# Altium schematic symbol library 排针排座.SchLib: 343 symbols (part 1 of 2)
Pins are listed as number, name and electrical type; pins without a type are passive.

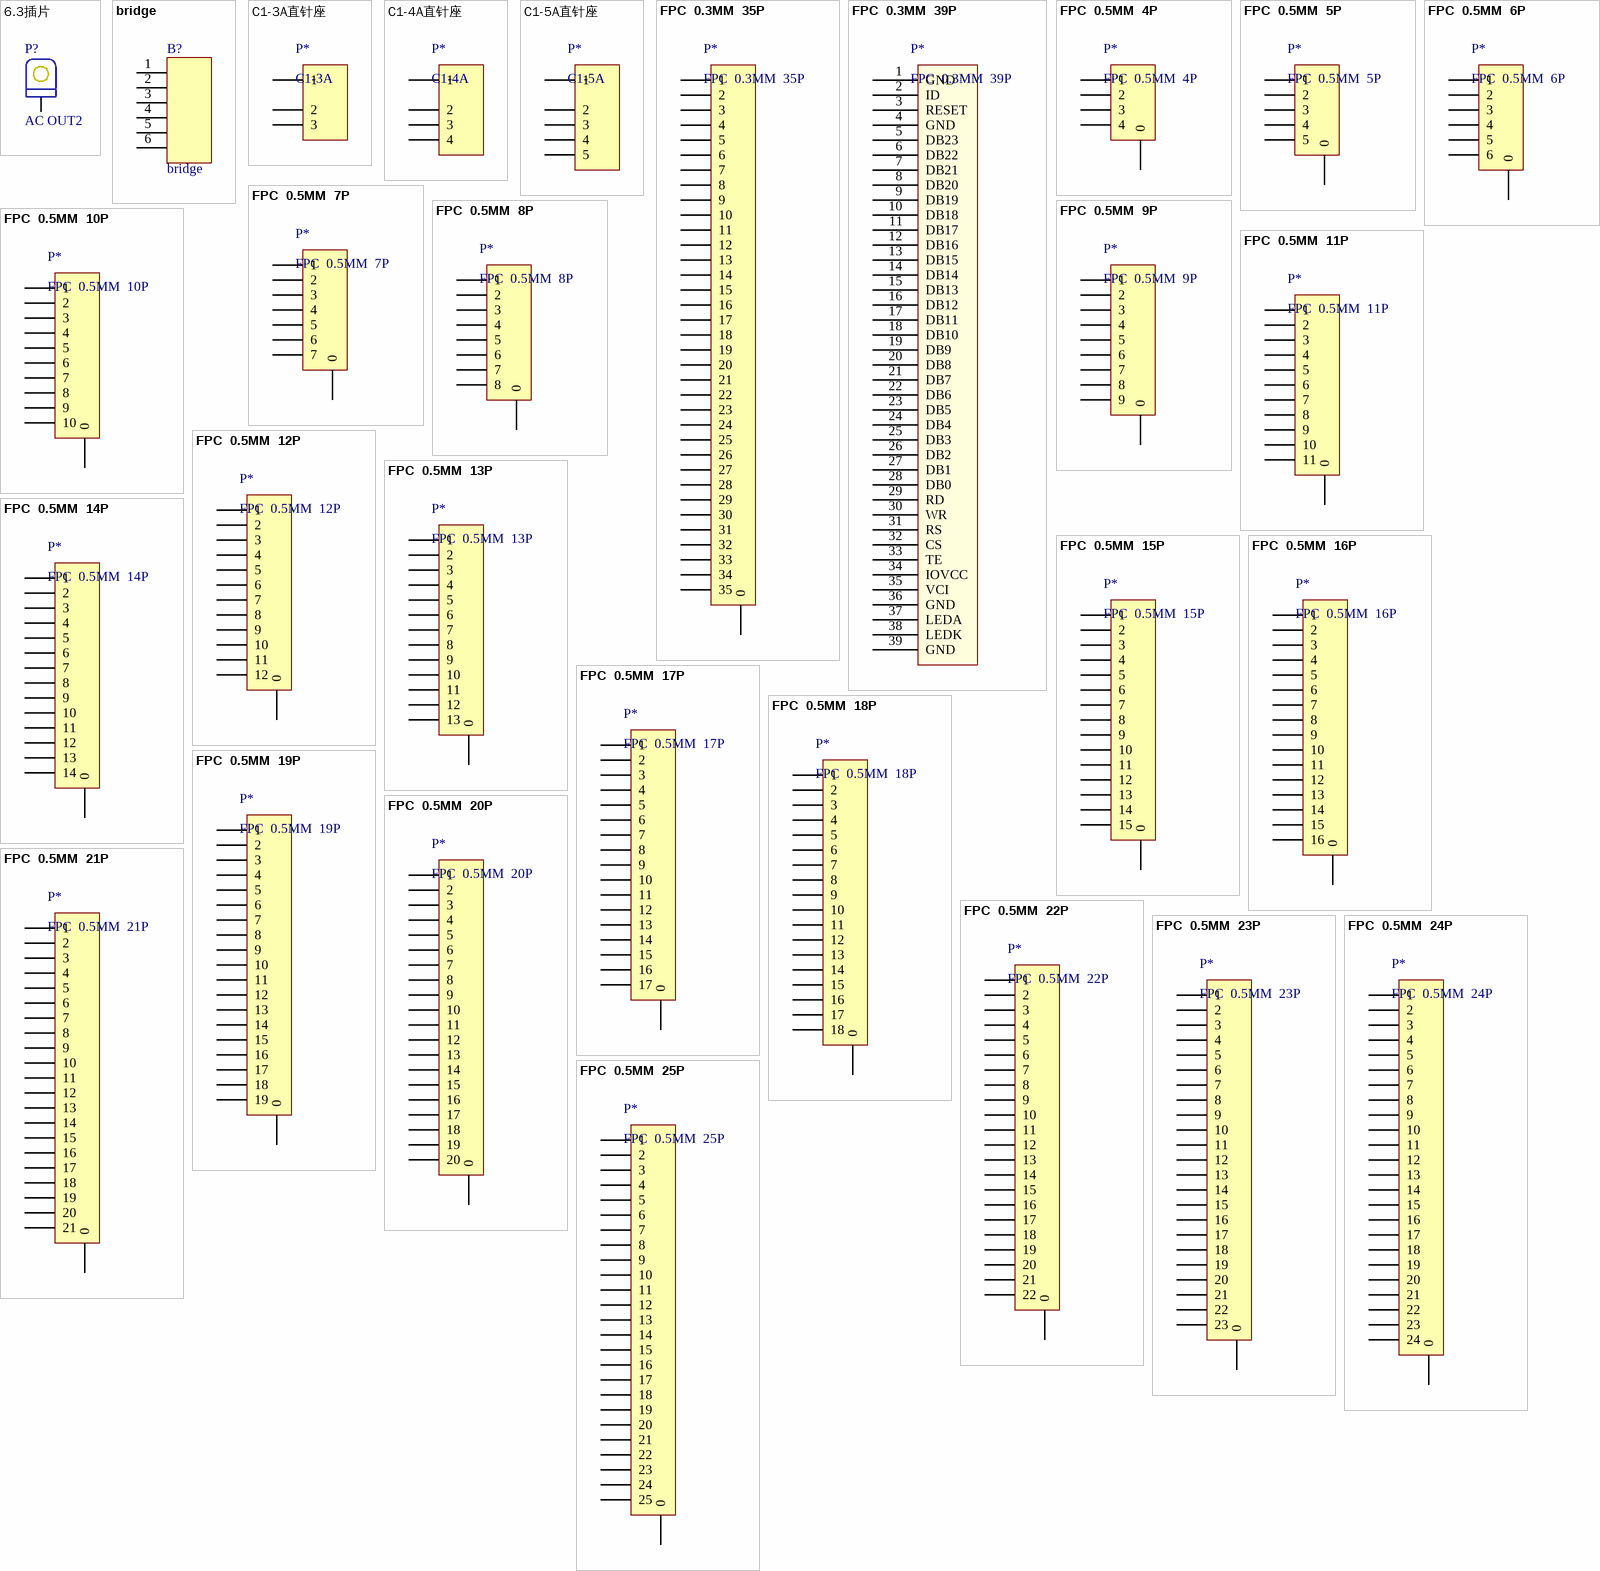
[diagram p0: symbols 6.3插片 to FPC  0.5MM  25P]

## 6.3插片
designator P?, comment AC OUT2
6.3旗型插片 0.8; 物料代码: 3.04.12.0003; 助记码: 6.3QXCP 0.8; 单位: 个; 仓库名称: 五金仓; 加工方式: 插件; 物料名称: 6.3旗型插片 0.8; 规格型号: *
footprint 6.3插片
pins: 1

## bridge
designator B?
仓库名称: 五金仓; 单位: 只; 加工方式: 插件; 物料名称: *; 物料代码: *; 助记码: *; 规格型号: *; 备注: *
footprint bridge (手机唛支架)
pins: 1, 2, 3, 4, 5, 6

## C1-3A直针座
designator P*, comment C1-3A
C1-3A直针座; 物料代码: 3.02.08.01.0015; 仓库名称: 五金仓; 助记码: C1-3AZZZ; 单位: 个; 加工方式: 插件; 规格型号: *; 物料名称: C1-3A直针座; 备注: *
footprint C1-3A   8MM (CA-3A直插座)
pins: 1, 2, 3

## C1-4A直针座
designator P*, comment C1-4A
C1-4A直针座; 物料代码: 3.02.08.01.0016; 仓库名称: 五金仓; 助记码: C1-4AZZZ; 单位: 个; 加工方式: 插件; 规格型号: *; 物料名称: C1-4A直针座; 备注: *
footprint C1-4A   8MM (CA-4A直插座)
pins: 1, 2, 3, 4

## C1-5A直针座
designator P*, comment C1-5A
C1-5A直针座; 物料代码: 3.02.08.01.0041; 仓库名称: 五金仓; 助记码: C1-5AZZZ; 单位: 个; 加工方式: 插件; 规格型号: *; 物料名称: C1-5A直针座; 备注: *
footprint C1-5A   8MM (CA-5A直插座)
pins: 1, 2, 3, 4, 5

## FPC  0.3MM  35P
designator P*
0.3MM间距35P翻盖式FPC连接器; 规格型号: 0.3K-DX-35PWB 1.0H 镀金/白色; 物料代码: 3.02.08.07.0013; 仓库名称: 五金仓; 助记码: 0.3MMJJ35PFGSFPCLJQ; 单位: 只; 加工方式: 贴片; 物料名称: 0.3MM间距35P翻盖式FPC连接器; 备注: *
footprint FPC  0.3  35P
pins: 0, 1, 2, 3, 4, 5, 6, 7, 8, 9, 10, 11, 12, 13, 14, 15, 16, 17, 18, 19, 20, 21, 22, 23, 24, 25, 26, 27, 28, 29, 30, 31, 32, 33, 34, 35

## FPC  0.3MM  39P
designator P*
0.3MM间距39P翻盖下接镀金贴片FPC连接器; 仓库名称: 五金仓; 规格型号: H1.0卷装; 单位: 只; 物料代码: 3.02.08.07.0016; 助记码: 0.3MMJJ39PFGXJDJTPFP; 加工方式: 贴片; 物料名称: 0.3MM间距39P翻盖下接镀金贴片FPC连接器; 备注: *
footprint FPC  0.3  39P (2006用)
pins: 1 GND, 2 ID, 3 RESET, 4 GND, 5 DB23, 6 DB22, 7 DB21, 8 DB20, 9 DB19, 10 DB18, 11 DB17, 12 DB16, 13 DB15, 14 DB14, 15 DB13, 16 DB12, 17 DB11, 18 DB10, 19 DB9, 20 DB8, 21 DB7, 22 DB6, 23 DB5, 24 DB4, 25 DB3, 26 DB2, 27 DB1, 28 DB0, 29 RD, 30 WR, 31 RS, 32 CS, 33 TE, 34 IOVCC, 35 VCI, 36 GND, 37 LEDA, 38 LEDK, 39 GND

## FPC  0.5MM  4P
designator P*
FPC0.5 2H-S-W-4P; 仓库名称: 五金仓; 加工方式: 贴片; 物料代码: *; 物料名称: *; 备注: *; 规格型号: *; 单位: *; 助记码: *
footprint FPC  0.5   04P (长：6.2mm，宽：5.2mm，高：2mm)
pins: 0, 1, 2, 3, 4

## FPC  0.5MM  5P
designator P*
FPC0.5 2H-S-W-5P; 仓库名称: 五金仓; 加工方式: 贴片; 规格型号: *; 物料名称: *; 物料代码: *; 助记码: *; 单位: *; 备注: *
footprint FPC0.5 2H-S-W-5P (长：6.7mm，宽：5.2mm，高：2mm)
pins: 0, 1, 2, 3, 4, 5

## FPC  0.5MM  6P
designator P*
FPC0.5 2H-S-W-6P; 仓库名称: 五金仓; 加工方式: 贴片; 规格型号: *; 物料名称: *; 单位: *; 物料代码: *; 助记码: *; 备注: *
footprint FPC0.5 2H-S-W-6P (长：7.2mm，宽：5.2mm，高：2mm)
pins: 0, 1, 2, 3, 4, 5, 6

## FPC  0.5MM  7P
designator P*
FPC0.5 2H-S-W-7P; 仓库名称: 五金仓; 加工方式: 贴片; 规格型号: *; 物料名称: *; 物料代码: *; 助记码: *; 单位: *; 备注: *
footprint FPC0.5 2H-S-W-7P (长：7.7mm，宽：5.2mm，高：2mm)
pins: 0, 1, 2, 3, 4, 5, 6, 7

## FPC  0.5MM  8P
designator P*
FPC0.5 2H-S-W-8P; 仓库名称: 五金仓; 加工方式: 贴片; 物料名称: *; 物料代码: *; 规格型号: *; 单位: *; 助记码: *; 备注: *
footprint FPC0.5 2H-S-W-8P (长：8.2mm，宽：5.2mm，高：2mm)
pins: 0, 1, 2, 3, 4, 5, 6, 7, 8

## FPC  0.5MM  9P
designator P*
FPC0.5 2H-S-W-9P; 仓库名称: 五金仓; 加工方式: 贴片; 规格型号: *; 助记码: *; 单位: *; 备注: *; 物料代码: *; 物料名称: *
footprint FPC0.5 2H-S-W-9P (长：8.7mm，宽：5.2mm，高：2mm)
pins: 0, 1, 2, 3, 4, 5, 6, 7, 8, 9

## FPC  0.5MM  10P
designator P*
FPC0.5 2H-S-W-10P; 仓库名称: 五金仓; 加工方式: 贴片; 助记码: *; 单位: *; 物料名称: *; 备注: *; 规格型号: *
footprint FPC  0.5  10P
pins: 0, 1, 2, 3, 4, 5, 6, 7, 8, 9, 10

## FPC  0.5MM  11P
designator P*
FPC0.5 2H-S-W-11P; 仓库名称: 五金仓; 加工方式: 贴片; 物料名称: *; 规格型号: *; 单位: *; 备注: *; 助记码: *; 物料代码: *
footprint FPC  0.5  11P
pins: 0, 1, 2, 3, 4, 5, 6, 7, 8, 9, 10, 11

## FPC  0.5MM  12P
designator P*
FPC0.5 2H-S-W-12P; 仓库名称: 五金仓; 加工方式: 贴片; 物料名称: *; 物料代码: *; 规格型号: *; 助记码: *; 单位: *; 备注: *
footprint FPC  0.5  12P
pins: 0, 1, 2, 3, 4, 5, 6, 7, 8, 9, 10, 11, 12

## FPC  0.5MM  13P
designator P*
FPC0.5 2H-S-W-13P; 仓库名称: 五金仓; 加工方式: 贴片; 规格型号: *; 助记码: *; 单位: *; 备注: *; 物料代码: *; 物料名称: *
footprint FPC  0.5  13P
pins: 0, 1, 2, 3, 4, 5, 6, 7, 8, 9, 10, 11, 12, 13

## FPC  0.5MM  14P
designator P*
FPC0.5 2H-S-W-14P; 仓库名称: 五金仓; 加工方式: 贴片; 物料名称: *; 规格型号: *; 助记码: *; 单位: *; 备注: *; 物料代码: *
footprint FPC  0.5  14P
pins: 0, 1, 2, 3, 4, 5, 6, 7, 8, 9, 10, 11, 12, 13, 14

## FPC  0.5MM  15P
designator P*
FPC0.5 2H-S-W-15P; 仓库名称: 五金仓; 加工方式: 贴片; 规格型号: *; 物料代码: *; 物料名称: *; 助记码: *; 备注: *; 单位: *
footprint FPC  0.5  15P
pins: 0, 1, 2, 3, 4, 5, 6, 7, 8, 9, 10, 11, 12, 13, 14, 15

## FPC  0.5MM  16P
designator P*
FPC0.5 2H-S-W-16P; 仓库名称: 五金仓; 加工方式: 贴片; 规格型号: *; 物料代码: *; 物料名称: *; 备注: *; 单位: *; 助记码: *
footprint FPC  0.5  16P
pins: 0, 1, 2, 3, 4, 5, 6, 7, 8, 9, 10, 11, 12, 13, 14, 15, 16

## FPC  0.5MM  17P
designator P*
FPC0.5 2H-S-W-17P; 仓库名称: 五金仓; 加工方式: 贴片; 规格型号: *; 助记码: *; 单位: *; 物料代码: *; 物料名称: *; 备注: *
footprint FPC  0.5  17P
pins: 0, 1, 2, 3, 4, 5, 6, 7, 8, 9, 10, 11, 12, 13, 14, 15, 16, 17

## FPC  0.5MM  18P
designator P*
FPC0.5 2H-S-W-18P; 仓库名称: 五金仓; 加工方式: 贴片; 备注: *; 物料代码: *; 物料名称: *; 规格型号: *; 助记码: *; 单位: *
footprint FPC  0.5  18P
pins: 0, 1, 2, 3, 4, 5, 6, 7, 8, 9, 10, 11, 12, 13, 14, 15, 16, 17, 18

## FPC  0.5MM  19P
designator P*
FPC0.5 2H-S-W-19P; 仓库名称: 五金仓; 加工方式: 贴片; 规格型号: *; 物料名称: *; 助记码: *; 单位: *; 备注: *; 物料代码: *
footprint FPC  0.5  19P
pins: 0, 1, 2, 3, 4, 5, 6, 7, 8, 9, 10, 11, 12, 13, 14, 15, 16, 17, 18, 19

## FPC  0.5MM  20P
designator P*
FPC0.5 2H-S-W-20P; 仓库名称: 五金仓; 加工方式: 贴片; 助记码: *; 单位: *; 备注: *; 物料代码: *; 物料名称: *; 规格型号: *
footprint FPC  0.5  20P
pins: 0, 1, 2, 3, 4, 5, 6, 7, 8, 9, 10, 11, 12, 13, 14, 15, 16, 17, 18, 19, 20

## FPC  0.5MM  21P
designator P*
FPC0.5 2H-S-W-21P; 仓库名称: 五金仓; 加工方式: 贴片; 物料名称: *; 规格型号: *; 助记码: *; 单位: *; 备注: *; 物料代码: *
footprint FPC  0.5  21P
pins: 0, 1, 2, 3, 4, 5, 6, 7, 8, 9, 10, 11, 12, 13, 14, 15, 16, 17, 18, 19, 20, 21

## FPC  0.5MM  22P
designator P*
FPC0.5 2H-S-W-22P; 仓库名称: 五金仓; 加工方式: 贴片; 规格型号: *; 助记码: *; 备注: *; 物料代码: *; 单位: *; 物料名称: *
footprint FPC  0.5  22P
pins: 0, 1, 2, 3, 4, 5, 6, 7, 8, 9, 10, 11, 12, 13, 14, 15, 16, 17, 18, 19, 20, 21, 22

## FPC  0.5MM  23P
designator P*
FPC0.5 2H-S-W-23P; 仓库名称: 五金仓; 加工方式: 贴片; 规格型号: *; 物料名称: *; 物料代码: *; 单位: *; 备注: *; 助记码: *
footprint FPC  0.5  23P
pins: 0, 1, 2, 3, 4, 5, 6, 7, 8, 9, 10, 11, 12, 13, 14, 15, 16, 17, 18, 19, 20, 21, 22, 23

## FPC  0.5MM  24P
designator P*
FPC0.5 2H-S-W-24P; 仓库名称: 五金仓; 加工方式: 贴片; 单位: *; 助记码: *; 备注: *; 物料代码: *; 物料名称: *; 规格型号: *
footprint FPC  0.5  24P
pins: 0, 1, 2, 3, 4, 5, 6, 7, 8, 9, 10, 11, 12, 13, 14, 15, 16, 17, 18, 19, 20, 21, 22, 23, 24

## FPC  0.5MM  25P
designator P*
FPC0.5 2H-S-W-25P; 仓库名称: 五金仓; 加工方式: 贴片; 助记码: *; 单位: *; 备注: *; 物料代码: *; 物料名称: *; 规格型号: *
footprint FPC  0.5  25P
pins: 0, 1, 2, 3, 4, 5, 6, 7, 8, 9, 10, 11, 12, 13, 14, 15, 16, 17, 18, 19, 20, 21, 22, 23, 24, 25

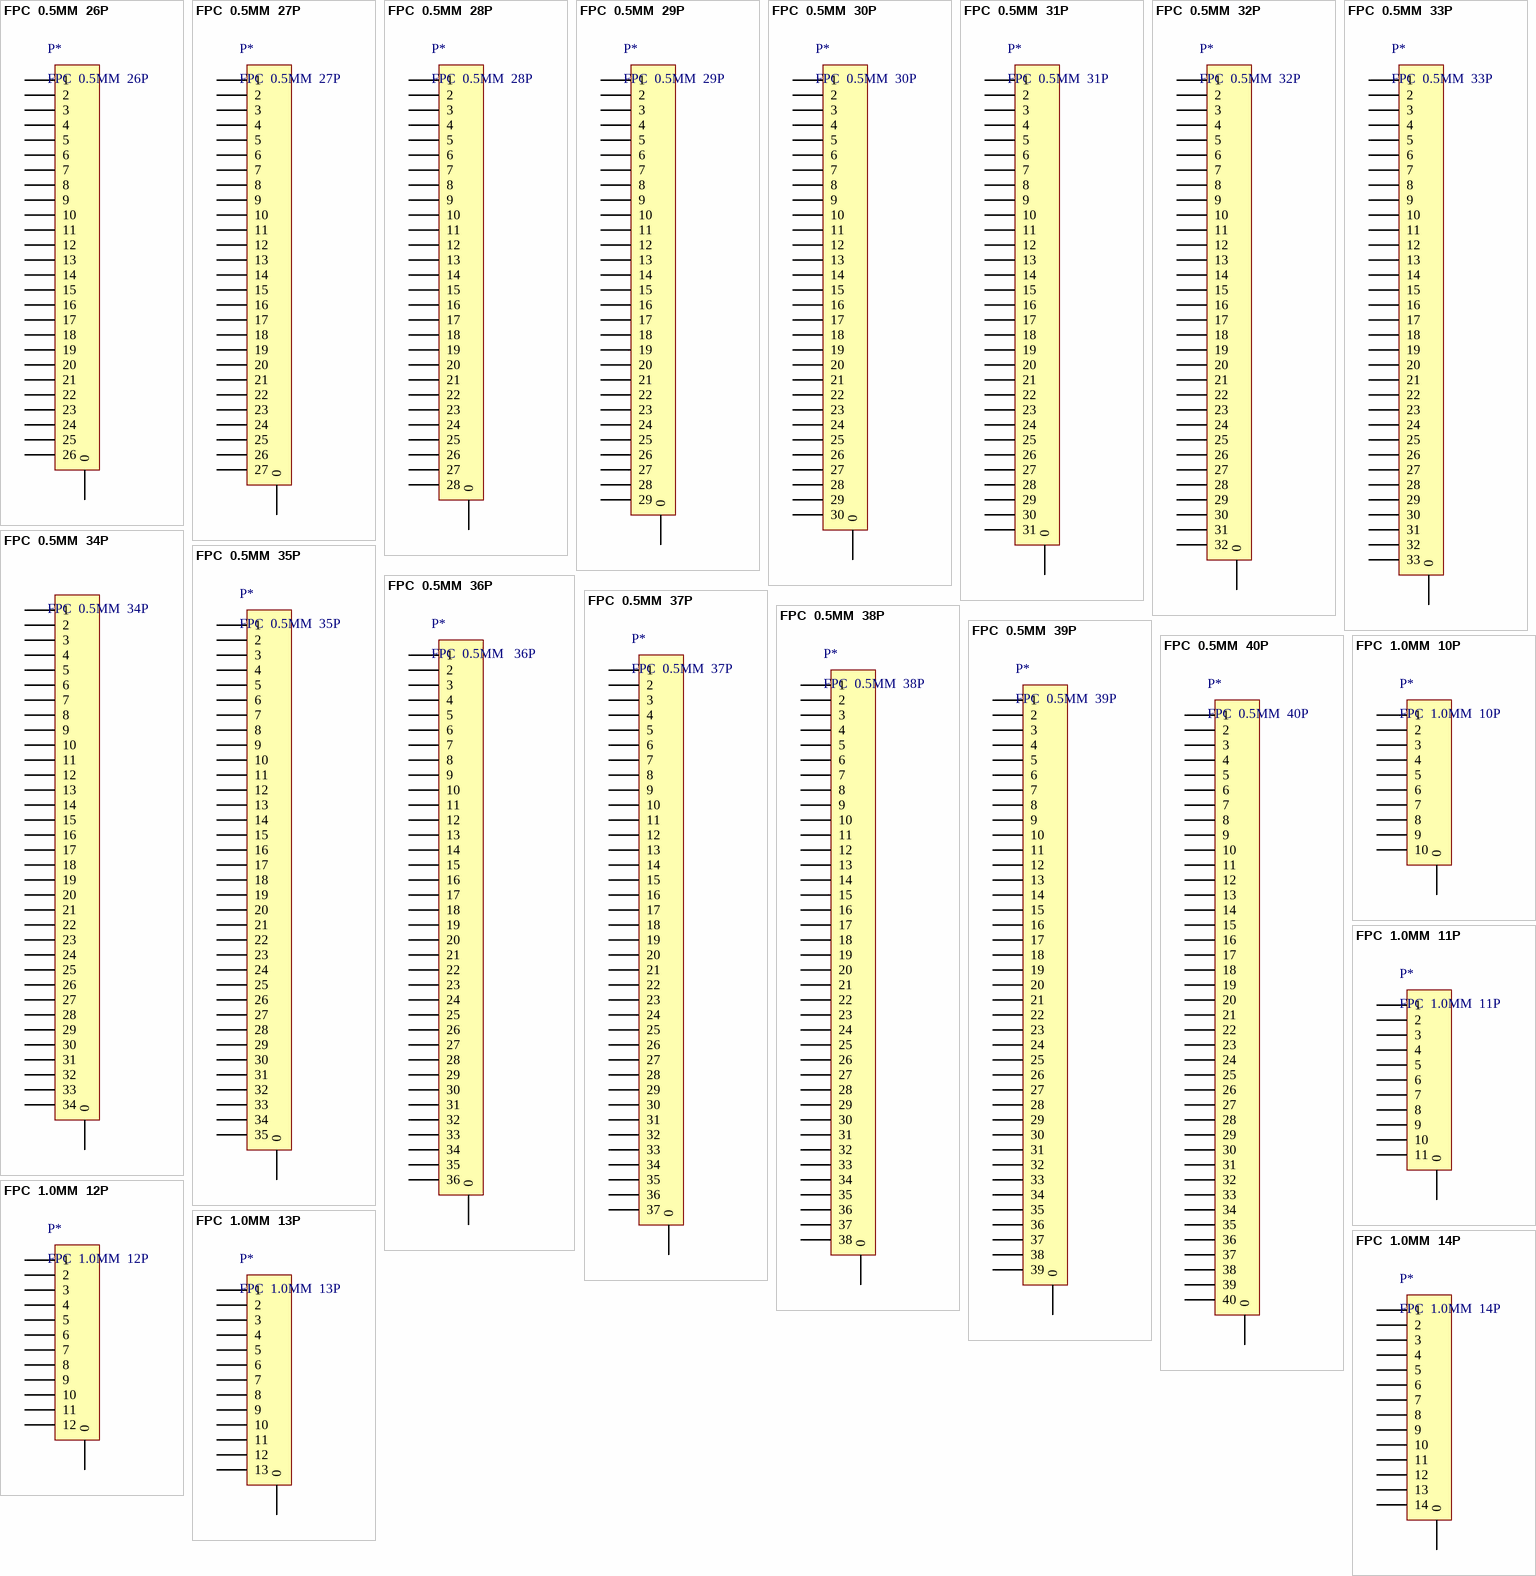
[diagram p1: symbols FPC  0.5MM  26P to FPC  1.0MM  14P]

## FPC  0.5MM  26P
designator P*
FPC0.5 2H-S-W-26P; 仓库名称: 五金仓; 加工方式: 贴片; 规格型号: *; 助记码: *; 单位: *; 备注: *; 物料代码: *; 物料名称: *
footprint FPC  0.5  26P
pins: 0, 1, 2, 3, 4, 5, 6, 7, 8, 9, 10, 11, 12, 13, 14, 15, 16, 17, 18, 19, 20, 21, 22, 23, 24, 25, 26

## FPC  0.5MM  27P
designator P*
FPC0.5 2H-S-W-27P; 仓库名称: 五金仓; 加工方式: 贴片; 单位: *; 规格型号: *; 助记码: *; 物料名称: *; 物料代码: *; 备注: *
footprint FPC  0.5  27P
pins: 0, 1, 2, 3, 4, 5, 6, 7, 8, 9, 10, 11, 12, 13, 14, 15, 16, 17, 18, 19, 20, 21, 22, 23, 24, 25, 26, 27

## FPC  0.5MM  28P
designator P*
FPC0.5 2H-S-W-28P; 仓库名称: 五金仓; 加工方式: 贴片; 物料名称: *; 规格型号: *; 物料代码: *; 助记码: *; 单位: *; 备注: *
footprint FPC  0.5  28P
pins: 0, 1, 2, 3, 4, 5, 6, 7, 8, 9, 10, 11, 12, 13, 14, 15, 16, 17, 18, 19, 20, 21, 22, 23, 24, 25, 26, 27, 28

## FPC  0.5MM  29P
designator P*
FPC0.5 2H-S-W-29P; 仓库名称: 五金仓; 加工方式: 贴片; 物料名称: *; 规格型号: *; 物料代码: *; 助记码: *; 单位: *; 备注: *
footprint FPC  0.5  29P
pins: 0, 1, 2, 3, 4, 5, 6, 7, 8, 9, 10, 11, 12, 13, 14, 15, 16, 17, 18, 19, 20, 21, 22, 23, 24, 25, 26, 27, 28, 29

## FPC  0.5MM  30P
designator P*
FPC0.5 2H-S-W-30P; 仓库名称: 五金仓; 加工方式: 贴片; 规格型号: *; 物料名称: *; 物料代码: *; 备注: *; 单位: *; 助记码: *
footprint FPC  0.5  30P
pins: 0, 1, 2, 3, 4, 5, 6, 7, 8, 9, 10, 11, 12, 13, 14, 15, 16, 17, 18, 19, 20, 21, 22, 23, 24, 25, 26, 27, 28, 29, 30

## FPC  0.5MM  31P
designator P*
FPC0.5 2H-S-W-31P; 仓库名称: 五金仓; 加工方式: 贴片; 物料名称: *; 物料代码: *; 规格型号: *; 助记码: *; 单位: *; 备注: *
footprint FPC  0.5  31P
pins: 0, 1, 2, 3, 4, 5, 6, 7, 8, 9, 10, 11, 12, 13, 14, 15, 16, 17, 18, 19, 20, 21, 22, 23, 24, 25, 26, 27, 28, 29, 30, 31

## FPC  0.5MM  32P
designator P*
FPC0.5 2H-S-W-32P; 仓库名称: 五金仓; 加工方式: 贴片; 物料名称: *; 物料代码: *; 规格型号: *; 助记码: *; 备注: *; 单位: *
footprint FPC  0.5  32P
pins: 0, 1, 2, 3, 4, 5, 6, 7, 8, 9, 10, 11, 12, 13, 14, 15, 16, 17, 18, 19, 20, 21, 22, 23, 24, 25, 26, 27, 28, 29, 30, 31, 32

## FPC  0.5MM  33P
designator P*
FPC0.5 2H-S-W-33P; 仓库名称: 五金仓; 加工方式: 贴片; 规格型号: *; 单位: *; 助记码: *; 备注: *; 物料代码: *; 物料名称: *
footprint FPC  0.5  33P
pins: 0, 1, 2, 3, 4, 5, 6, 7, 8, 9, 10, 11, 12, 13, 14, 15, 16, 17, 18, 19, 20, 21, 22, 23, 24, 25, 26, 27, 28, 29, 30, 31, 32, 33

## FPC  0.5MM  34P
designator ?
FPC0.5 2H-S-W-34P; 仓库名称: 五金仓; 加工方式: 贴片; 单位: *; 助记码: *; 规格型号: *; 备注: *; 物料名称: *; 物料代码: *
footprint FPC  0.5  34P
pins: 0, 1, 2, 3, 4, 5, 6, 7, 8, 9, 10, 11, 12, 13, 14, 15, 16, 17, 18, 19, 20, 21, 22, 23, 24, 25, 26, 27, 28, 29, 30, 31, 32, 33, 34

## FPC  0.5MM  35P
designator P*
FPC0.5 2H-S-W-35P; 仓库名称: 五金仓; 加工方式: 贴片; 物料名称: *; 规格型号: *; 物料代码: *; 助记码: *; 单位: *; 备注: *
footprint FPC  0.5  35P
pins: 0, 1, 2, 3, 4, 5, 6, 7, 8, 9, 10, 11, 12, 13, 14, 15, 16, 17, 18, 19, 20, 21, 22, 23, 24, 25, 26, 27, 28, 29, 30, 31, 32, 33, 34, 35

## FPC  0.5MM  36P
designator P*, comment FPC  0.5MM   36P
FPC0.5 2H-S-W-36P; 仓库名称: 五金仓; 加工方式: 贴片; 物料名称: *; 规格型号: *; 物料代码: *; 助记码: *; 单位: *; 备注: *
footprint FPC  0.5  36P
pins: 0, 1, 2, 3, 4, 5, 6, 7, 8, 9, 10, 11, 12, 13, 14, 15, 16, 17, 18, 19, 20, 21, 22, 23, 24, 25, 26, 27, 28, 29, 30, 31, 32, 33, 34, 35, 36

## FPC  0.5MM  37P
designator P*
FPC0.5 2H-S-W-37P; 仓库名称: 五金仓; 加工方式: 贴片; 规格型号: *; 助记码: *; 单位: *; 物料代码: *; 物料名称: *; 备注: *
footprint FPC  0.5  37P
pins: 0, 1, 2, 3, 4, 5, 6, 7, 8, 9, 10, 11, 12, 13, 14, 15, 16, 17, 18, 19, 20, 21, 22, 23, 24, 25, 26, 27, 28, 29, 30, 31, 32, 33, 34, 35, 36, 37

## FPC  0.5MM  38P
designator P*
FPC0.5 2H-S-W-38P; 仓库名称: 五金仓; 加工方式: 贴片; 规格型号: *; 助记码: *; 单位: *; 备注: *; 物料代码: *; 物料名称: *
footprint FPC  0.5  38P
pins: 0, 1, 2, 3, 4, 5, 6, 7, 8, 9, 10, 11, 12, 13, 14, 15, 16, 17, 18, 19, 20, 21, 22, 23, 24, 25, 26, 27, 28, 29, 30, 31, 32, 33, 34, 35, 36, 37, 38

## FPC  0.5MM  39P
designator P*
FPC0.5 2H-S-W-39P; 仓库名称: 五金仓; 加工方式: 贴片; 物料名称: *; 规格型号: *; 单位: *; 备注: *; 物料代码: *; 助记码: *
footprint FPC  0.5  39P
pins: 0, 1, 2, 3, 4, 5, 6, 7, 8, 9, 10, 11, 12, 13, 14, 15, 16, 17, 18, 19, 20, 21, 22, 23, 24, 25, 26, 27, 28, 29, 30, 31, 32, 33, 34, 35, 36, 37, 38, 39

## FPC  0.5MM  40P
designator P*
FPC0.5 2H-S-W-40P; 仓库名称: 五金仓; 加工方式: 贴片; 规格型号: *; 助记码: *; 备注: *; 单位: *; 物料代码: *; 物料名称: *
footprint FPC  0.5  40P
pins: 0, 1, 2, 3, 4, 5, 6, 7, 8, 9, 10, 11, 12, 13, 14, 15, 16, 17, 18, 19, 20, 21, 22, 23, 24, 25, 26, 27, 28, 29, 30, 31, 32, 33, 34, 35, 36, 37, 38, 39, 40

## FPC  1.0MM  10P
designator P*
仓库名称: 五金仓; 加工方式: 贴片; 物料代码: *; 物料名称: *; 备注: *; 规格型号: *; 单位: *; 助记码: *
footprint FPC  1.0  10P (10 pins)
pins: 0, 1, 2, 3, 4, 5, 6, 7, 8, 9, 10

## FPC  1.0MM  11P
designator P*
仓库名称: 五金仓; 加工方式: 贴片; 物料代码: *; 物料名称: *; 备注: *; 规格型号: *; 单位: *; 助记码: *
footprint FPC  1.0  11P (11 Pins)
pins: 0, 1, 2, 3, 4, 5, 6, 7, 8, 9, 10, 11

## FPC  1.0MM  12P
designator P*
仓库名称: 五金仓; 加工方式: 贴片; 物料代码: *; 物料名称: *; 备注: *; 规格型号: *; 单位: *; 助记码: *
footprint FPC  1.0  12P (12 Pins)
pins: 0, 1, 2, 3, 4, 5, 6, 7, 8, 9, 10, 11, 12

## FPC  1.0MM  13P
designator P*
仓库名称: 五金仓; 加工方式: 贴片; 物料代码: *; 物料名称: *; 备注: *; 规格型号: *; 单位: *; 助记码: *
footprint FPC  1.0  13P (13 Pins)
pins: 0, 1, 2, 3, 4, 5, 6, 7, 8, 9, 10, 11, 12, 13

## FPC  1.0MM  14P
designator P*
仓库名称: 五金仓; 加工方式: 贴片; 物料代码: *; 物料名称: *; 备注: *; 规格型号: *; 单位: *; 助记码: *
footprint FPC  1.0  14P (14 Pns)
pins: 0, 1, 2, 3, 4, 5, 6, 7, 8, 9, 10, 11, 12, 13, 14

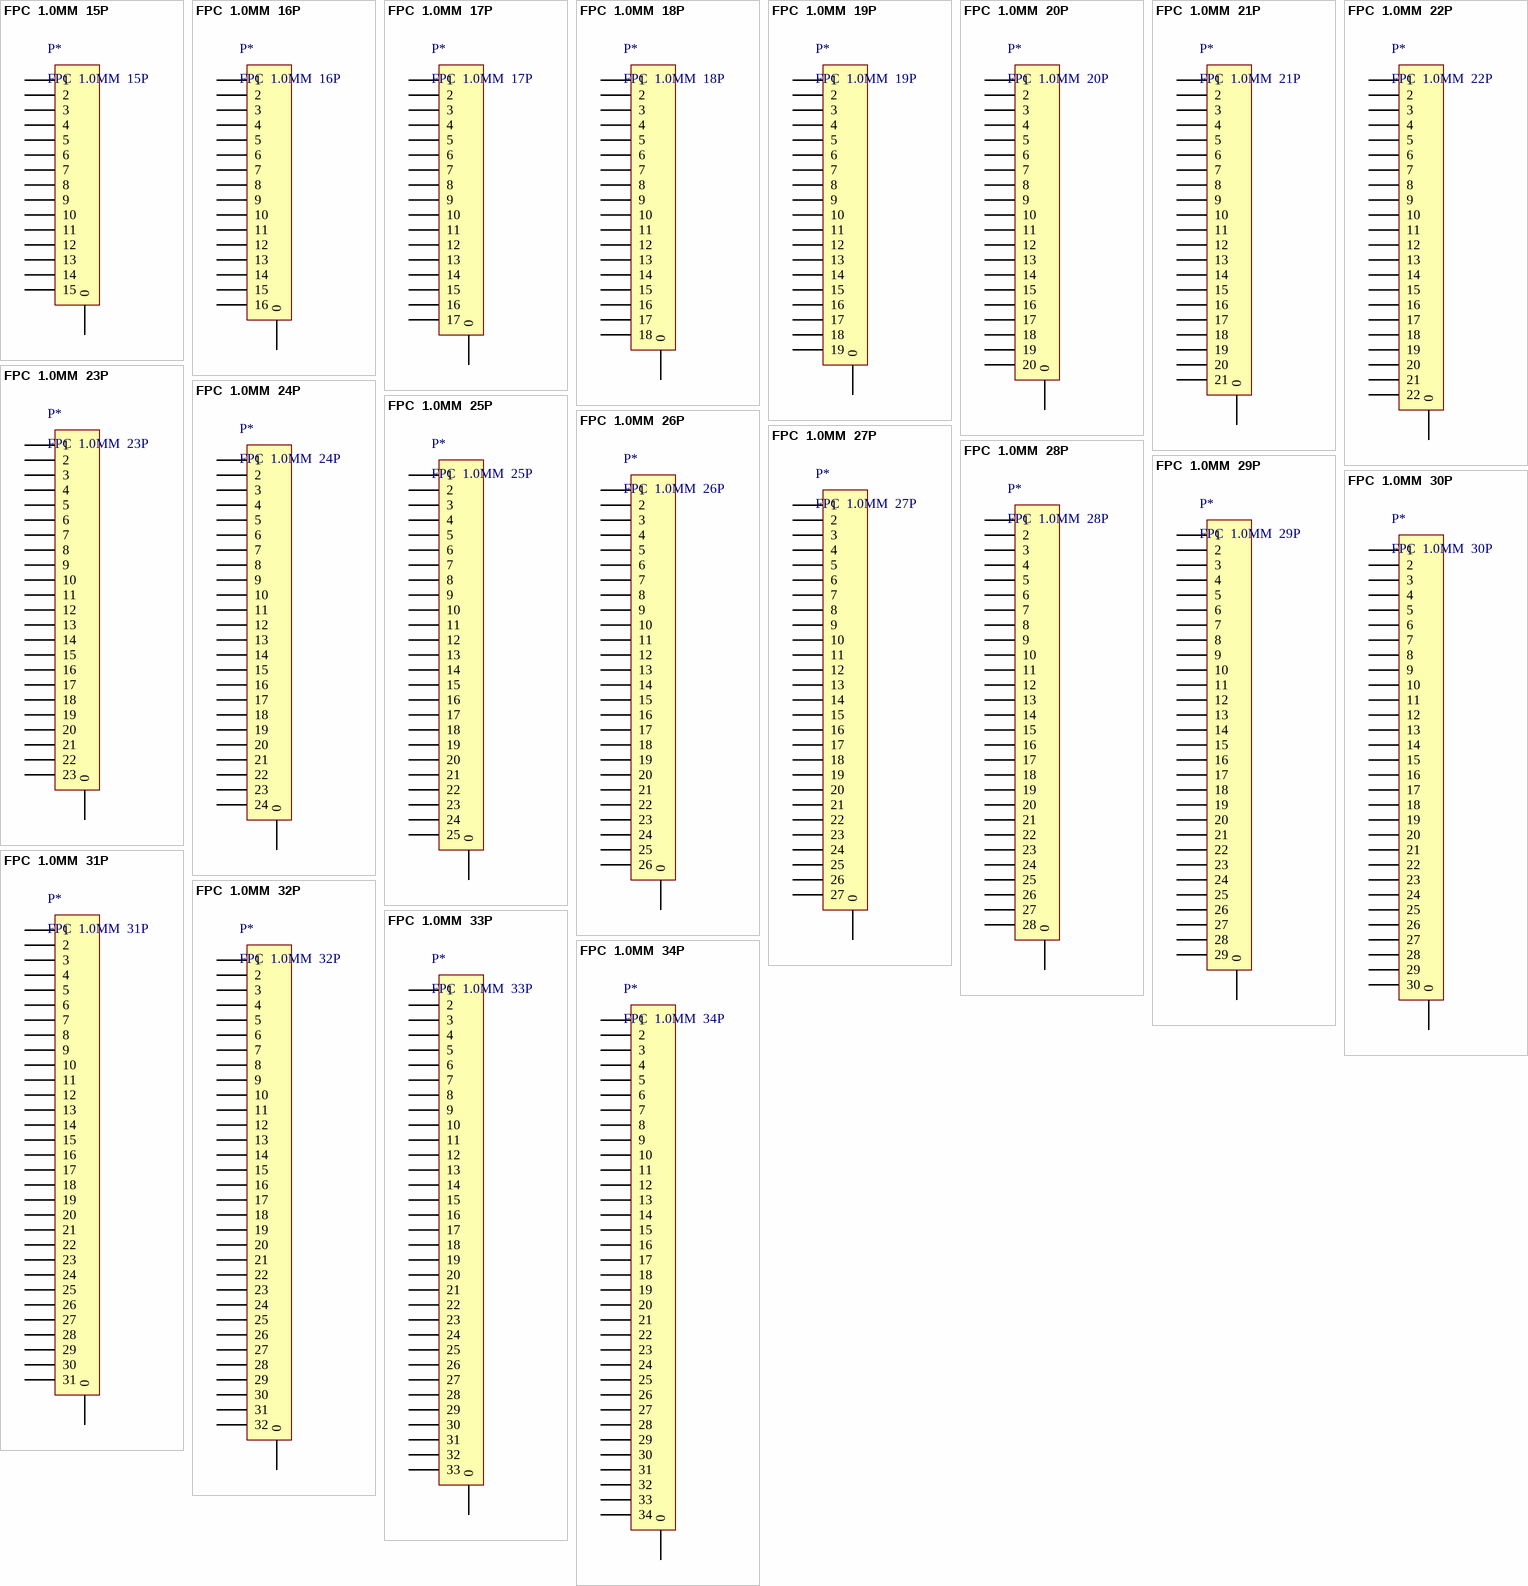
[diagram p2: symbols FPC  1.0MM  15P to FPC  1.0MM  34P]

## FPC  1.0MM  15P
designator P*
仓库名称: 五金仓; 加工方式: 贴片; 物料代码: *; 物料名称: *; 备注: *; 规格型号: *; 单位: *; 助记码: *
footprint FPC  1.0  15P (15 Pns)
pins: 0, 1, 2, 3, 4, 5, 6, 7, 8, 9, 10, 11, 12, 13, 14, 15

## FPC  1.0MM  16P
designator P*
FPC16A-1.0 200MM贴片排线 同向; 物料代码: 3.02.08.07.0001; 单位: 条; 仓库名称: 五金仓; 助记码: FPC16A-1.0TPPX TX; 加工方式: 贴片; 物料名称: FPC16A-1.0 200MM贴片排线 同向; 备注: *; 规格型号: *
footprint FPC  1.0  16P (16 Pns)
pins: 0, 1, 2, 3, 4, 5, 6, 7, 8, 9, 10, 11, 12, 13, 14, 15, 16

## FPC  1.0MM  17P
designator P*
仓库名称: 五金仓; 加工方式: 贴片; 物料代码: *; 物料名称: *; 备注: *; 规格型号: *; 单位: *; 助记码: *
footprint FPC  1.0  17P (17 Pns)
pins: 0, 1, 2, 3, 4, 5, 6, 7, 8, 9, 10, 11, 12, 13, 14, 15, 16, 17

## FPC  1.0MM  18P
designator P*
仓库名称: 五金仓; 加工方式: 贴片; 物料代码: *; 物料名称: *; 备注: *; 规格型号: *; 单位: *; 助记码: *
footprint FPC  1.0  18P (18 Pns)
pins: 0, 1, 2, 3, 4, 5, 6, 7, 8, 9, 10, 11, 12, 13, 14, 15, 16, 17, 18

## FPC  1.0MM  19P
designator P*
仓库名称: 五金仓; 加工方式: 贴片; 物料代码: *; 物料名称: *; 备注: *; 规格型号: *; 单位: *; 助记码: *
footprint FPC  1.0  19P (19 Pns)
pins: 0, 1, 2, 3, 4, 5, 6, 7, 8, 9, 10, 11, 12, 13, 14, 15, 16, 17, 18, 19

## FPC  1.0MM  20P
designator P*
仓库名称: 五金仓; 加工方式: 贴片; 物料代码: *; 物料名称: *; 备注: *; 规格型号: *; 单位: *; 助记码: *
footprint FPC  1.0  20P (20 Pns)
pins: 0, 1, 2, 3, 4, 5, 6, 7, 8, 9, 10, 11, 12, 13, 14, 15, 16, 17, 18, 19, 20

## FPC  1.0MM  21P
designator P*
仓库名称: 五金仓; 加工方式: 贴片; 物料代码: *; 物料名称: *; 备注: *; 规格型号: *; 单位: *; 助记码: *
footprint FPC  1.0  21P (21 Pns)
pins: 0, 1, 2, 3, 4, 5, 6, 7, 8, 9, 10, 11, 12, 13, 14, 15, 16, 17, 18, 19, 20, 21

## FPC  1.0MM  22P
designator P*
仓库名称: 五金仓; 加工方式: 贴片; 物料代码: *; 物料名称: *; 备注: *; 规格型号: *; 单位: *; 助记码: *
footprint FPC  1.0  22P (22 Pns)
pins: 0, 1, 2, 3, 4, 5, 6, 7, 8, 9, 10, 11, 12, 13, 14, 15, 16, 17, 18, 19, 20, 21, 22

## FPC  1.0MM  23P
designator P*
仓库名称: 五金仓; 加工方式: 贴片; 物料代码: *; 物料名称: *; 备注: *; 规格型号: *; 单位: *; 助记码: *
footprint FPC  1.0  23P (23 Pns)
pins: 0, 1, 2, 3, 4, 5, 6, 7, 8, 9, 10, 11, 12, 13, 14, 15, 16, 17, 18, 19, 20, 21, 22, 23

## FPC  1.0MM  24P
designator P*
仓库名称: 五金仓; 加工方式: 贴片; 物料代码: *; 物料名称: *; 备注: *; 规格型号: *; 单位: *; 助记码: *
footprint FPC  1.0  24P (24 Pns)
pins: 0, 1, 2, 3, 4, 5, 6, 7, 8, 9, 10, 11, 12, 13, 14, 15, 16, 17, 18, 19, 20, 21, 22, 23, 24

## FPC  1.0MM  25P
designator P*
仓库名称: 五金仓; 加工方式: 贴片; 物料代码: *; 物料名称: *; 备注: *; 规格型号: *; 单位: *; 助记码: *
footprint FPC  1.0  25P (25 Pns)
pins: 0, 1, 2, 3, 4, 5, 6, 7, 8, 9, 10, 11, 12, 13, 14, 15, 16, 17, 18, 19, 20, 21, 22, 23, 24, 25

## FPC  1.0MM  26P
designator P*
仓库名称: 五金仓; 加工方式: 贴片; 物料代码: *; 物料名称: *; 备注: *; 规格型号: *; 单位: *; 助记码: *
footprint FPC  1.0  26P (26 Pns)
pins: 0, 1, 2, 3, 4, 5, 6, 7, 8, 9, 10, 11, 12, 13, 14, 15, 16, 17, 18, 19, 20, 21, 22, 23, 24, 25, 26

## FPC  1.0MM  27P
designator P*
仓库名称: 五金仓; 加工方式: 贴片; 物料代码: *; 物料名称: *; 备注: *; 规格型号: *; 单位: *; 助记码: *
footprint FPC  1.0  27P (27 Pns)
pins: 0, 1, 2, 3, 4, 5, 6, 7, 8, 9, 10, 11, 12, 13, 14, 15, 16, 17, 18, 19, 20, 21, 22, 23, 24, 25, 26, 27

## FPC  1.0MM  28P
designator P*
仓库名称: 五金仓; 加工方式: 贴片; 物料代码: *; 物料名称: *; 备注: *; 规格型号: *; 单位: *; 助记码: *
footprint FPC  1.0  28P (28 Pns)
pins: 0, 1, 2, 3, 4, 5, 6, 7, 8, 9, 10, 11, 12, 13, 14, 15, 16, 17, 18, 19, 20, 21, 22, 23, 24, 25, 26, 27, 28

## FPC  1.0MM  29P
designator P*
仓库名称: 五金仓; 加工方式: 贴片; 物料代码: *; 物料名称: *; 备注: *; 规格型号: *; 单位: *; 助记码: *
footprint FPC  1.0  29P (29 Pns)
pins: 0, 1, 2, 3, 4, 5, 6, 7, 8, 9, 10, 11, 12, 13, 14, 15, 16, 17, 18, 19, 20, 21, 22, 23, 24, 25, 26, 27, 28, 29

## FPC  1.0MM  30P
designator P*
仓库名称: 五金仓; 加工方式: 贴片; 物料代码: *; 物料名称: *; 备注: *; 规格型号: *; 单位: *; 助记码: *
footprint FPC  1.0  30P (30 Pns)
pins: 0, 1, 2, 3, 4, 5, 6, 7, 8, 9, 10, 11, 12, 13, 14, 15, 16, 17, 18, 19, 20, 21, 22, 23, 24, 25, 26, 27, 28, 29, 30

## FPC  1.0MM  31P
designator P*
仓库名称: 五金仓; 加工方式: 贴片; 物料代码: *; 物料名称: *; 备注: *; 规格型号: *; 单位: *; 助记码: *
footprint FPC  1.0  31P (31 Pns)
pins: 0, 1, 2, 3, 4, 5, 6, 7, 8, 9, 10, 11, 12, 13, 14, 15, 16, 17, 18, 19, 20, 21, 22, 23, 24, 25, 26, 27, 28, 29, 30, 31

## FPC  1.0MM  32P
designator P*
仓库名称: 五金仓; 加工方式: 贴片; 物料代码: *; 物料名称: *; 备注: *; 规格型号: *; 单位: *; 助记码: *
footprint FPC  1.0  32P (32 Pins)
pins: 0, 1, 2, 3, 4, 5, 6, 7, 8, 9, 10, 11, 12, 13, 14, 15, 16, 17, 18, 19, 20, 21, 22, 23, 24, 25, 26, 27, 28, 29, 30, 31, 32

## FPC  1.0MM  33P
designator P*
仓库名称: 五金仓; 加工方式: 贴片; 物料代码: *; 物料名称: *; 备注: *; 规格型号: *; 单位: *; 助记码: *
footprint FPC  1.0  33P (33 Pins)
pins: 0, 1, 2, 3, 4, 5, 6, 7, 8, 9, 10, 11, 12, 13, 14, 15, 16, 17, 18, 19, 20, 21, 22, 23, 24, 25, 26, 27, 28, 29, 30, 31, 32, 33

## FPC  1.0MM  34P
designator P*
仓库名称: 五金仓; 加工方式: 贴片; 物料代码: *; 物料名称: *; 备注: *; 规格型号: *; 单位: *; 助记码: *
footprint FPC  1.0  34P (34 Pins)
pins: 0, 1, 2, 3, 4, 5, 6, 7, 8, 9, 10, 11, 12, 13, 14, 15, 16, 17, 18, 19, 20, 21, 22, 23, 24, 25, 26, 27, 28, 29, 30, 31, 32, 33, 34

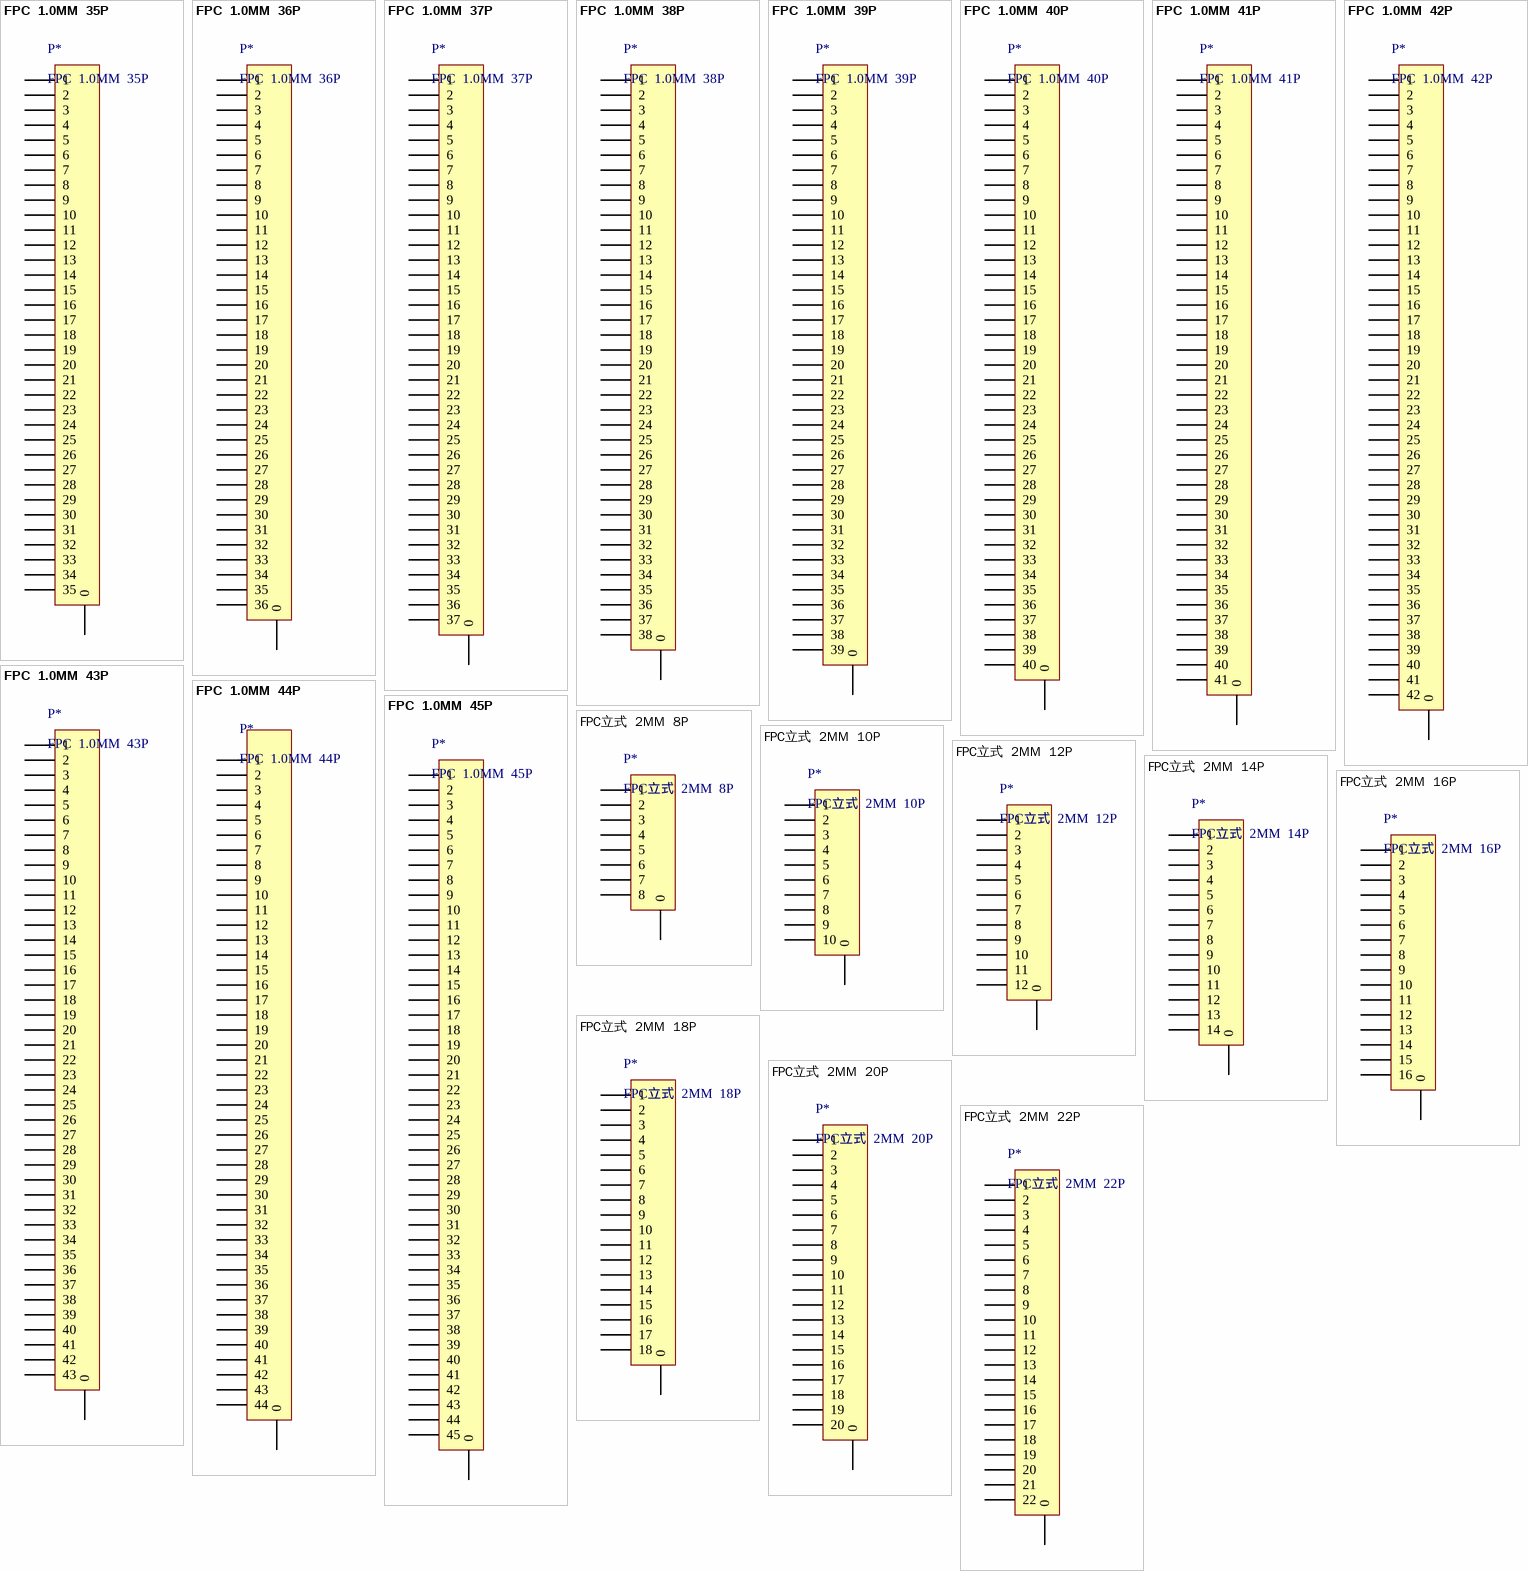
[diagram p3: symbols FPC  1.0MM  35P to FPC立式  2MM  22P]

## FPC  1.0MM  35P
designator P*
仓库名称: 五金仓; 加工方式: 贴片; 物料代码: *; 物料名称: *; 备注: *; 规格型号: *; 单位: *; 助记码: *
footprint FPC  1.0  35P (35 Pins)
pins: 0, 1, 2, 3, 4, 5, 6, 7, 8, 9, 10, 11, 12, 13, 14, 15, 16, 17, 18, 19, 20, 21, 22, 23, 24, 25, 26, 27, 28, 29, 30, 31, 32, 33, 34, 35

## FPC  1.0MM  36P
designator P*
仓库名称: 五金仓; 加工方式: 贴片; 物料代码: *; 物料名称: *; 备注: *; 规格型号: *; 单位: *; 助记码: *
footprint FPC  1.0  36P (36 Pins)
pins: 0, 1, 2, 3, 4, 5, 6, 7, 8, 9, 10, 11, 12, 13, 14, 15, 16, 17, 18, 19, 20, 21, 22, 23, 24, 25, 26, 27, 28, 29, 30, 31, 32, 33, 34, 35, 36

## FPC  1.0MM  37P
designator P*
仓库名称: 五金仓; 加工方式: 贴片; 物料代码: *; 物料名称: *; 备注: *; 规格型号: *; 单位: *; 助记码: *
footprint FPC  1.0  37P (37 Pins)
pins: 0, 1, 2, 3, 4, 5, 6, 7, 8, 9, 10, 11, 12, 13, 14, 15, 16, 17, 18, 19, 20, 21, 22, 23, 24, 25, 26, 27, 28, 29, 30, 31, 32, 33, 34, 35, 36, 37

## FPC  1.0MM  38P
designator P*
仓库名称: 五金仓; 加工方式: 贴片; 物料代码: *; 物料名称: *; 备注: *; 规格型号: *; 单位: *; 助记码: *
footprint FPC  1.0  38P (41 Pins)
pins: 0, 1, 2, 3, 4, 5, 6, 7, 8, 9, 10, 11, 12, 13, 14, 15, 16, 17, 18, 19, 20, 21, 22, 23, 24, 25, 26, 27, 28, 29, 30, 31, 32, 33, 34, 35, 36, 37, 38

## FPC  1.0MM  39P
designator P*
仓库名称: 五金仓; 加工方式: 贴片; 物料代码: *; 物料名称: *; 备注: *; 规格型号: *; 单位: *; 助记码: *
footprint FPC  1.0  39P (39 Pins)
pins: 0, 1, 2, 3, 4, 5, 6, 7, 8, 9, 10, 11, 12, 13, 14, 15, 16, 17, 18, 19, 20, 21, 22, 23, 24, 25, 26, 27, 28, 29, 30, 31, 32, 33, 34, 35, 36, 37, 38, 39

## FPC  1.0MM  40P
designator P*
仓库名称: 五金仓; 加工方式: 贴片; 物料代码: *; 物料名称: *; 备注: *; 规格型号: *; 单位: *; 助记码: *
footprint FPC  1.0  40P (40 Pins)
pins: 0, 1, 2, 3, 4, 5, 6, 7, 8, 9, 10, 11, 12, 13, 14, 15, 16, 17, 18, 19, 20, 21, 22, 23, 24, 25, 26, 27, 28, 29, 30, 31, 32, 33, 34, 35, 36, 37, 38, 39, 40

## FPC  1.0MM  41P
designator P*
仓库名称: 五金仓; 加工方式: 贴片; 物料代码: *; 物料名称: *; 备注: *; 规格型号: *; 单位: *; 助记码: *
footprint FPC  1.0  41P (41 Pins)
pins: 0, 1, 2, 3, 4, 5, 6, 7, 8, 9, 10, 11, 12, 13, 14, 15, 16, 17, 18, 19, 20, 21, 22, 23, 24, 25, 26, 27, 28, 29, 30, 31, 32, 33, 34, 35, 36, 37, 38, 39, 40, 41

## FPC  1.0MM  42P
designator P*
仓库名称: 五金仓; 加工方式: 贴片; 物料代码: *; 物料名称: *; 备注: *; 规格型号: *; 单位: *; 助记码: *
footprint FPC  1.0  42P (42 Pins)
pins: 0, 1, 2, 3, 4, 5, 6, 7, 8, 9, 10, 11, 12, 13, 14, 15, 16, 17, 18, 19, 20, 21, 22, 23, 24, 25, 26, 27, 28, 29, 30, 31, 32, 33, 34, 35, 36, 37, 38, 39, 40, 41, 42

## FPC  1.0MM  43P
designator P*
仓库名称: 五金仓; 加工方式: 贴片; 物料代码: *; 物料名称: *; 备注: *; 规格型号: *; 单位: *; 助记码: *
footprint FPC  1.0  43P (43 Pins)
pins: 0, 1, 2, 3, 4, 5, 6, 7, 8, 9, 10, 11, 12, 13, 14, 15, 16, 17, 18, 19, 20, 21, 22, 23, 24, 25, 26, 27, 28, 29, 30, 31, 32, 33, 34, 35, 36, 37, 38, 39, 40, 41, 42, 43

## FPC  1.0MM  44P
designator P*
仓库名称: 五金仓; 加工方式: 贴片; 物料代码: *; 物料名称: *; 备注: *; 规格型号: *; 单位: *; 助记码: *
footprint FPC  1.0  44P (44 Pins)
pins: 0, 1, 2, 3, 4, 5, 6, 7, 8, 9, 10, 11, 12, 13, 14, 15, 16, 17, 18, 19, 20, 21, 22, 23, 24, 25, 26, 27, 28, 29, 30, 31, 32, 33, 34, 35, 36, 37, 38, 39, 40, 41, 42, 43, 44

## FPC  1.0MM  45P
designator P*
仓库名称: 五金仓; 加工方式: 贴片; 物料代码: *; 物料名称: *; 备注: *; 规格型号: *; 单位: *; 助记码: *
footprint FPC  1.0  45P (45 Pins)
pins: 0, 1, 2, 3, 4, 5, 6, 7, 8, 9, 10, 11, 12, 13, 14, 15, 16, 17, 18, 19, 20, 21, 22, 23, 24, 25, 26, 27, 28, 29, 30, 31, 32, 33, 34, 35, 36, 37, 38, 39, 40, 41, 42, 43, 44, 45

## FPC立式  2MM  8P
designator P*
单位: 只; 仓库名称: 五金仓; 加工方式: 贴片; 物料代码: *; 物料名称: *; 备注: *; 规格型号: *; 助记码: *
footprint FPC立式  2MM  8P (连接DSP)
pins: 0, 1, 2, 3, 4, 5, 6, 7, 8

## FPC立式  2MM  10P
designator P*
单位: 只; 仓库名称: 五金仓; 加工方式: 贴片; 物料代码: *; 物料名称: *; 备注: *; 规格型号: *; 助记码: *
footprint FPC立式  2MM  10P (连DSP)
pins: 0, 1, 2, 3, 4, 5, 6, 7, 8, 9, 10

## FPC立式  2MM  12P
designator P*
单位: 只; 仓库名称: 五金仓; 加工方式: 贴片; 物料代码: *; 物料名称: *; 备注: *; 规格型号: *; 助记码: *
footprint FPC立式  2MM  12P (连DSP)
pins: 0, 1, 2, 3, 4, 5, 6, 7, 8, 9, 10, 11, 12

## FPC立式  2MM  14P
designator P*
单位: 只; 仓库名称: 五金仓; 加工方式: 贴片; 物料代码: *; 物料名称: *; 备注: *; 规格型号: *; 助记码: *
footprint FPC立式  2MM  14P (连DSP)
pins: 0, 1, 2, 3, 4, 5, 6, 7, 8, 9, 10, 11, 12, 13, 14

## FPC立式  2MM  16P
designator P*
FPC16A-1.0立式贴片排线座; 物料代码: 3.02.08.07.0002; 单位: 只; 仓库名称: 五金仓; 助记码: FPC16A-1.0LSTPPXZ; 加工方式: 贴片; 物料名称: FPC16A-1.0立式贴片排线座; 备注: *; 规格型号: *
footprint FPC立式  2MM  16P (连DSP)
pins: 0, 1, 2, 3, 4, 5, 6, 7, 8, 9, 10, 11, 12, 13, 14, 15, 16

## FPC立式  2MM  18P
designator P*
单位: 只; 仓库名称: 五金仓; 加工方式: 贴片; 物料代码: *; 物料名称: *; 备注: *; 规格型号: *; 助记码: *
footprint FPC立式  2MM  18P (连DSP)
pins: 0, 1, 2, 3, 4, 5, 6, 7, 8, 9, 10, 11, 12, 13, 14, 15, 16, 17, 18

## FPC立式  2MM  20P
designator P*
单位: 只; 仓库名称: 五金仓; 加工方式: 贴片; 物料代码: *; 物料名称: *; 备注: *; 规格型号: *; 助记码: *
footprint FPC立式  2MM  20P (连DSP)
pins: 0, 1, 2, 3, 4, 5, 6, 7, 8, 9, 10, 11, 12, 13, 14, 15, 16, 17, 18, 19, 20

## FPC立式  2MM  22P
designator P*
单位: 只; 仓库名称: 五金仓; 加工方式: 贴片; 物料代码: *; 物料名称: *; 备注: *; 规格型号: *; 助记码: *
footprint FPC立式  2MM  22P (连DSP)
pins: 0, 1, 2, 3, 4, 5, 6, 7, 8, 9, 10, 11, 12, 13, 14, 15, 16, 17, 18, 19, 20, 21, 22

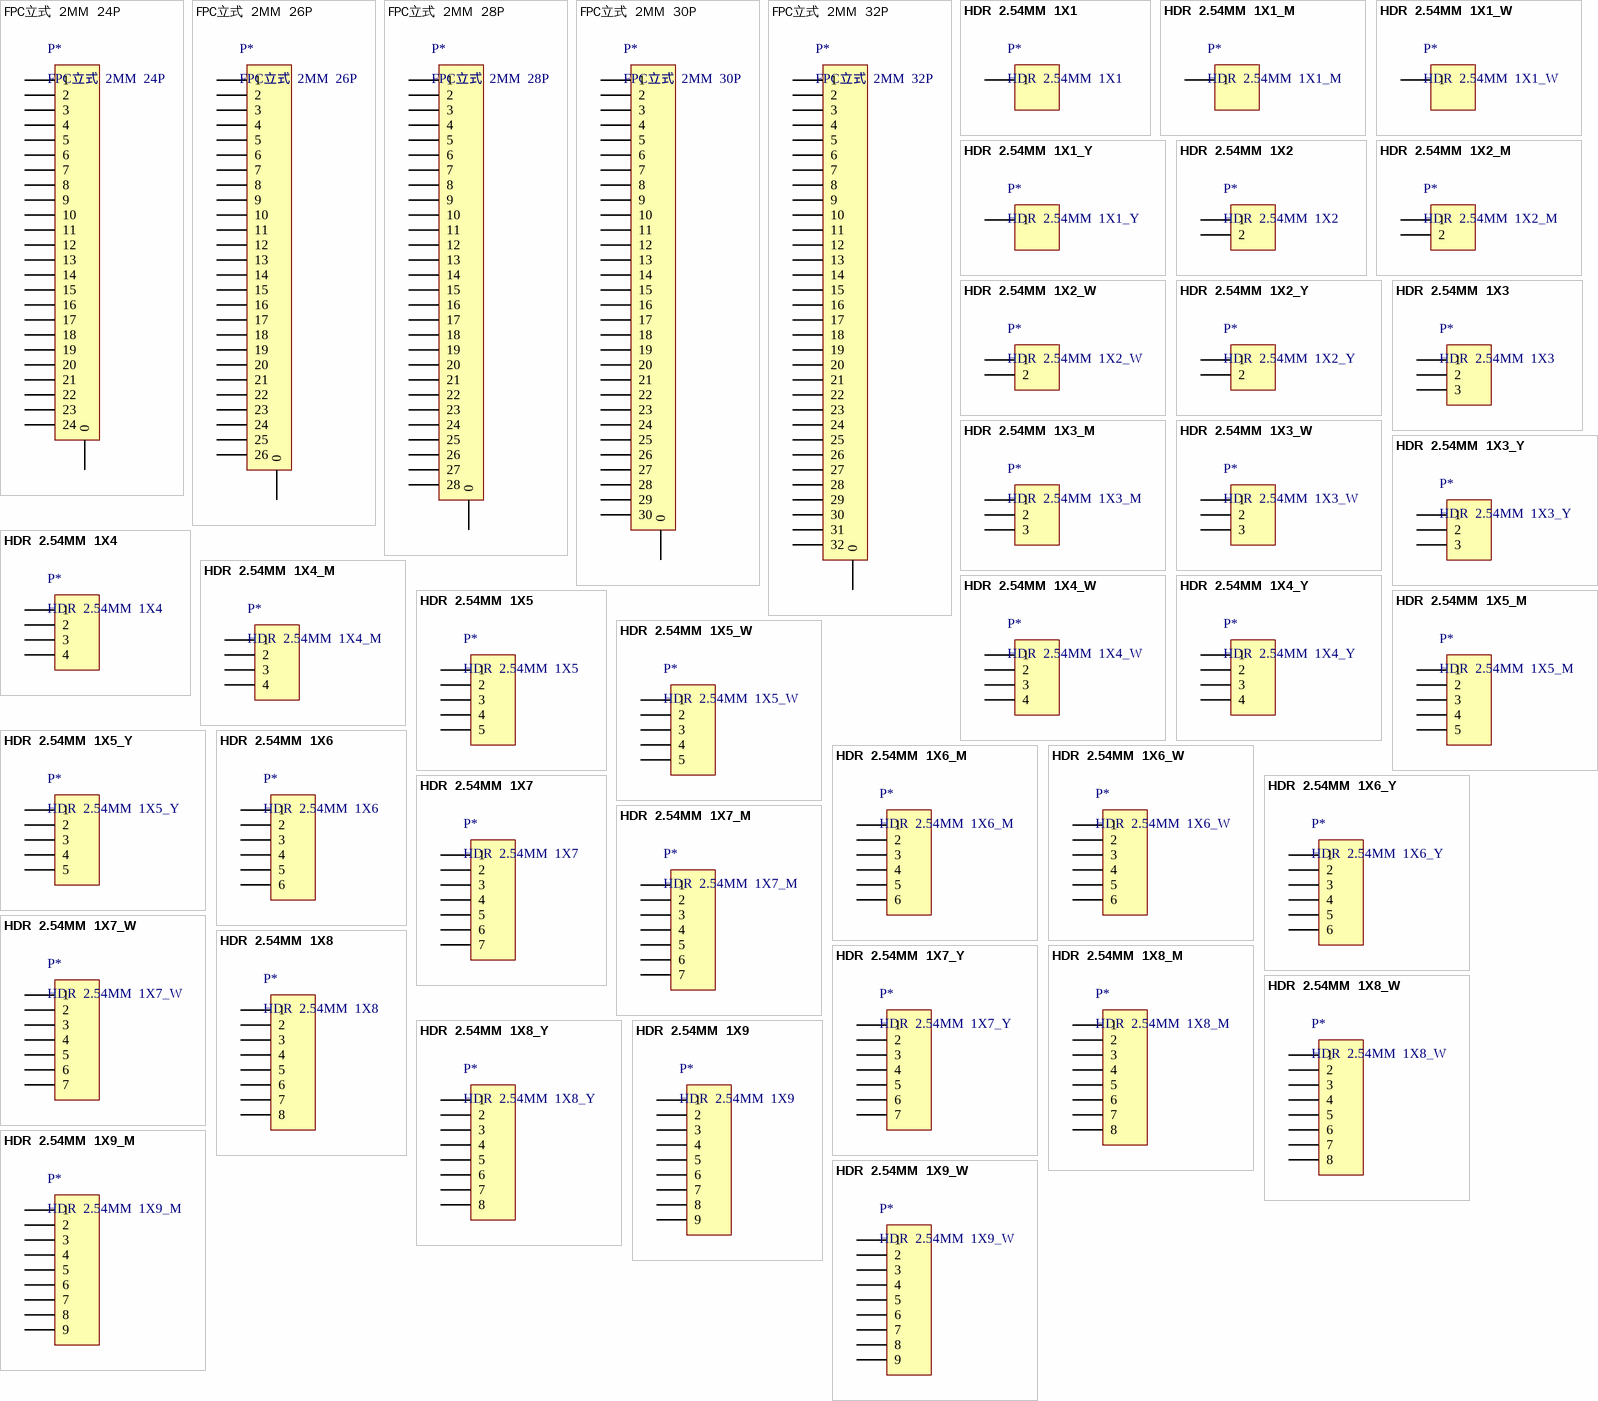
[diagram p4: symbols FPC立式  2MM  24P to HDR  2.54MM  1X9_W]

## FPC立式  2MM  24P
designator P*
单位: 只; 仓库名称: 五金仓; 加工方式: 贴片; 物料代码: *; 物料名称: *; 备注: *; 规格型号: *; 助记码: *
footprint FPC立式  2MM  24P (连DSP)
pins: 0, 1, 2, 3, 4, 5, 6, 7, 8, 9, 10, 11, 12, 13, 14, 15, 16, 17, 18, 19, 20, 21, 22, 23, 24

## FPC立式  2MM  26P
designator P*
单位: 只; 仓库名称: 五金仓; 加工方式: 贴片; 物料代码: *; 物料名称: *; 备注: *; 规格型号: *; 助记码: *
footprint FPC立式  2MM  26P (连DSP)
pins: 0, 1, 2, 3, 4, 5, 6, 7, 8, 9, 10, 11, 12, 13, 14, 15, 16, 17, 18, 19, 20, 21, 22, 23, 24, 25, 26

## FPC立式  2MM  28P
designator P*
单位: 只; 仓库名称: 五金仓; 加工方式: 贴片; 物料代码: *; 物料名称: *; 备注: *; 规格型号: *; 助记码: *
footprint FPC立式  2MM  28P (连DSP)
pins: 0, 1, 2, 3, 4, 5, 6, 7, 8, 9, 10, 11, 12, 13, 14, 15, 16, 17, 18, 19, 20, 21, 22, 23, 24, 25, 26, 27, 28

## FPC立式  2MM  30P
designator P*
单位: 只; 仓库名称: 五金仓; 加工方式: 贴片; 物料代码: *; 物料名称: *; 备注: *; 规格型号: *; 助记码: *
footprint FPC立式  2MM  30P (连DSP)
pins: 0, 1, 2, 3, 4, 5, 6, 7, 8, 9, 10, 11, 12, 13, 14, 15, 16, 17, 18, 19, 20, 21, 22, 23, 24, 25, 26, 27, 28, 29, 30

## FPC立式  2MM  32P
designator P*
单位: 只; 仓库名称: 五金仓; 加工方式: 贴片; 物料代码: *; 物料名称: *; 备注: *; 规格型号: *; 助记码: *
footprint FPC立式  2MM  32P (连DSP)
pins: 0, 1, 2, 3, 4, 5, 6, 7, 8, 9, 10, 11, 12, 13, 14, 15, 16, 17, 18, 19, 20, 21, 22, 23, 24, 25, 26, 27, 28, 29, 30, 31, 32

## HDR  2.54MM  1X1
designator P*
仓库名称: 五金仓; 加工方式: 插件; 规格型号: *; 物料代码: *; 物料名称: *; 备注: *; 单位: *; 助记码: *
footprint HDR-1X1 (排针，1脚)
pins: 1

## HDR  2.54MM  1X1_M
designator P*
仓库名称: 五金仓; 加工方式: 插件; 规格型号: *; 物料名称: *; 备注: *; 物料代码: *; 单位: *; 助记码: *
footprint HDR-1X1_M (排母，1脚)
pins: 1

## HDR  2.54MM  1X1_W
designator P*
仓库名称: 五金仓; 加工方式: 插件; 物料名称: *; 规格型号: *; 助记码: *; 单位: *; 备注: *; 物料代码: *
footprint HDR-1X1_W (弯脚排针，1脚)
pins: 1

## HDR  2.54MM  1X1_Y
designator P*
仓库名称: 五金仓; 加工方式: 插件; 规格型号: *; 物料代码: *; 物料名称: *; 助记码: *; 单位: *; 备注: *
footprint HDR-1X1_Y (圆孔排母，1脚)
pins: 1

## HDR  2.54MM  1X2
designator P*
仓库名称: 五金仓; 加工方式: 插件; 规格型号: *; 物料名称: *; 助记码: *; 单位: *; 备注: *; 物料代码: *
footprint HDR-1x2 (排针，2脚)
pins: 1, 2

## HDR  2.54MM  1X2_M
designator P*
仓库名称: 五金仓; 加工方式: 插件; 规格型号: *; 备注: *; 物料代码: *; 助记码: *; 物料名称: *; 单位: *
footprint HDR-1X2_M (排母，2脚)
pins: 1, 2

## HDR  2.54MM  1X2_W
designator P*
仓库名称: 五金仓; 加工方式: 插件; 规格型号: *; 助记码: *; 单位: *; 备注: *; 物料代码: *; 物料名称: *
footprint HDR-1X2_W (弯脚排针，2脚)
pins: 1, 2

## HDR  2.54MM  1X2_Y
designator P*
仓库名称: 五金仓; 加工方式: 插件; 规格型号: *; 单位: *; 助记码: *; 备注: *; 物料代码: *; 物料名称: *
footprint HDR-1X2_Y (圆孔排母，2脚)
pins: 1, 2

## HDR  2.54MM  1X3
designator P*
仓库名称: 五金仓; 加工方式: 插件; 助记码: *; 单位: *; 备注: *; 物料代码: *; 物料名称: *; 规格型号: *
footprint HDR-1X3 (排针，3脚)
pins: 1, 2, 3

## HDR  2.54MM  1X3_M
designator P*
仓库名称: 五金仓; 加工方式: 插件; 规格型号: *; 备注: *; 单位: *; 物料代码: *; 助记码: *
footprint HDR-1X3_M (排母，3脚)
pins: 1, 2, 3

## HDR  2.54MM  1X3_W
designator P*
仓库名称: 五金仓; 加工方式: 插件; 助记码: *; 规格型号: *; 物料代码: *; 物料名称: *; 单位: *; 备注: *
footprint HDR-1X3_W (弯脚排针，3脚)
pins: 1, 2, 3

## HDR  2.54MM  1X3_Y
designator P*
仓库名称: 五金仓; 加工方式: 插件; 物料名称: *; 规格型号: *; 助记码: *; 单位: *; 备注: *; 物料代码: *
footprint HDR-1X3_Y (圆孔排母，3脚)
pins: 1, 2, 3

## HDR  2.54MM  1X4
designator P*
仓库名称: 五金仓; 加工方式: 插件; 规格型号: *; 助记码: *; 单位: *; 备注: *; 物料代码: *; 物料名称: *
footprint HDR-1X4 (排针，4脚)
pins: 1, 2, 3, 4

## HDR  2.54MM  1X4_M
designator P*
仓库名称: 五金仓; 加工方式: 插件; 规格型号: *; 助记码: *; 单位: *; 备注: *; 物料代码: *; 物料名称: *
footprint HDR-1X4_M (排母，4脚)
pins: 1, 2, 3, 4

## HDR  2.54MM  1X4_W
designator P*
仓库名称: 五金仓; 加工方式: 插件; 规格型号: *; 助记码: *; 单位: *; 备注: *; 物料代码: *; 物料名称: *
footprint HDR-1X4_W (弯脚排针，4脚)
pins: 1, 2, 3, 4

## HDR  2.54MM  1X4_Y
designator P*
仓库名称: 五金仓; 加工方式: 插件; 规格型号: *; 物料名称: *; 助记码: *; 备注: *; 物料代码: *; 单位: *
footprint HDR-1X4_Y (圆孔排母，4脚)
pins: 1, 2, 3, 4

## HDR  2.54MM  1X5
designator P*
仓库名称: 五金仓; 加工方式: 插件; 单位: *; 助记码: *; 备注: *; 物料代码: *; 物料名称: *; 规格型号: *
footprint HDR-1X5 (排针，5脚)
pins: 1, 2, 3, 4, 5

## HDR  2.54MM  1X5_M
designator P*
仓库名称: 五金仓; 加工方式: 插件; 物料代码: *; 备注: *; 规格型号: *; 物料名称: *; 单位: *; 助记码: *
footprint HDR-1X5_M (排母，5脚)
pins: 1, 2, 3, 4, 5

## HDR  2.54MM  1X5_W
designator P*
仓库名称: 五金仓; 加工方式: 插件; 助记码: *; 备注: *; 物料代码: *; 物料名称: *; 规格型号: *; 单位: *
footprint HDR-1X5_W (弯脚排针，5脚)
pins: 1, 2, 3, 4, 5

## HDR  2.54MM  1X5_Y
designator P*
仓库名称: 五金仓; 加工方式: 插件; 助记码: *; 物料名称: *; 规格型号: *; 单位: *; 备注: *; 物料代码: *
footprint HDR-1X5_Y (圆孔排母，5脚)
pins: 1, 2, 3, 4, 5

## HDR  2.54MM  1X6
designator P*
仓库名称: 五金仓; 加工方式: 插件; 助记码: *; 物料代码: *; 单位: *; 备注: *; 物料名称: *; 规格型号: *
footprint HDR-1X6 (排针，6脚)
pins: 1, 2, 3, 4, 5, 6

## HDR  2.54MM  1X6_M
designator P*
仓库名称: 五金仓; 加工方式: 插件; 物料名称: *; 规格型号: *; 助记码: *; 单位: *; 备注: *; 物料代码: *
footprint HDR-1X6_M (排母，6脚)
pins: 1, 2, 3, 4, 5, 6

## HDR  2.54MM  1X6_W
designator P*
仓库名称: 五金仓; 加工方式: 插件; 助记码: *; 单位: *; 备注: *; 物料代码: *; 物料名称: *; 规格型号: *
footprint HDR-1X6_W (弯脚排针，6脚)
pins: 1, 2, 3, 4, 5, 6

## HDR  2.54MM  1X6_Y
designator P*
仓库名称: 五金仓; 加工方式: 插件; 助记码: *; 单位: *; 备注: *; 物料代码: *; 物料名称: *; 规格型号: *
footprint HDR-1X6_Y (圆孔排母，6脚)
pins: 1, 2, 3, 4, 5, 6

## HDR  2.54MM  1X7
designator P*
仓库名称: 五金仓; 加工方式: 插件; 规格型号: *; 助记码: *; 单位: *; 备注: *; 物料代码: *; 物料名称: *
footprint HDR-1X7 (排针，8脚)
pins: 1, 2, 3, 4, 5, 6, 7

## HDR  2.54MM  1X7_M
designator P*
仓库名称: 五金仓; 加工方式: 插件; 助记码: *; 单位: *; 备注: *; 物料代码: *; 物料名称: *; 饿了的吗: *
footprint HDR-1X7_M (排母，7脚)
pins: 1, 2, 3, 4, 5, 6, 7

## HDR  2.54MM  1X7_W
designator P*
仓库名称: 五金仓; 加工方式: 插件; 单位: *; 助记码: *; 物料名称: *; 规格型号: *; 备注: *; 物料代码: *
footprint HDR-1X7_W (弯脚排针，7脚)
pins: 1, 2, 3, 4, 5, 6, 7

## HDR  2.54MM  1X7_Y
designator P*
仓库名称: 五金仓; 加工方式: 插件; 助记码: *; 单位: *; 备注: *; 物料代码: *; 物料名称: *; 规格型号: *
footprint HDR-1X7_Y (圆孔排母，7脚)
pins: 1, 2, 3, 4, 5, 6, 7

## HDR  2.54MM  1X8
designator P*
仓库名称: 五金仓; 加工方式: 插件; 助记码: *; 单位: *; 备注: *; 物料代码: *; 物料名称: *; 规格型号: *
footprint HDR-1X8 (排针，8脚)
pins: 1, 2, 3, 4, 5, 6, 7, 8

## HDR  2.54MM  1X8_M
designator P*
仓库名称: 五金仓; 加工方式: 插件; 助记码: *; 单位: *; 备注: *; 物料名称: *; 物料代码: *; 规格型号: *
footprint HDR-1X8_M (排母，8脚)
pins: 1, 2, 3, 4, 5, 6, 7, 8

## HDR  2.54MM  1X8_W
designator P*
仓库名称: 五金仓; 加工方式: 插件; 助记码: *; 单位: *; 物料代码: *; 备注: *; 规格型号: *; 物料名称: *
footprint HDR-1X8_W (弯脚排针，8脚)
pins: 1, 2, 3, 4, 5, 6, 7, 8

## HDR  2.54MM  1X8_Y
designator P*
仓库名称: 五金仓; 加工方式: 插件; 物料名称: *; 单位: *; 助记码: *; 规格型号: *; 物料代码: *; 备注: *
footprint HDR-1X8_Y (圆孔排母，8脚)
pins: 1, 2, 3, 4, 5, 6, 7, 8

## HDR  2.54MM  1X9
designator P*
仓库名称: 五金仓; 加工方式: 插件; 助记码: *; 单位: *; 备注: *; 物料代码: *; 物料名称: *; 规格型号: *
footprint HDR-1X9 (排针，9脚)
pins: 1, 2, 3, 4, 5, 6, 7, 8, 9

## HDR  2.54MM  1X9_M
designator P*
仓库名称: 五金仓; 加工方式: 插件; 物料名称: *; 规格型号: *; 助记码: *; 单位: *; 备注: *; 物料代码: *
footprint HDR-1X9_M (排母，9脚)
pins: 1, 2, 3, 4, 5, 6, 7, 8, 9

## HDR  2.54MM  1X9_W
designator P*
仓库名称: 五金仓; 加工方式: 插件; 助记码: *; 物料名称: *; 备注: *; 规格型号: *; 物料代码: *; 单位: *
footprint HDR-1X9_W (弯脚排针，9脚)
pins: 1, 2, 3, 4, 5, 6, 7, 8, 9

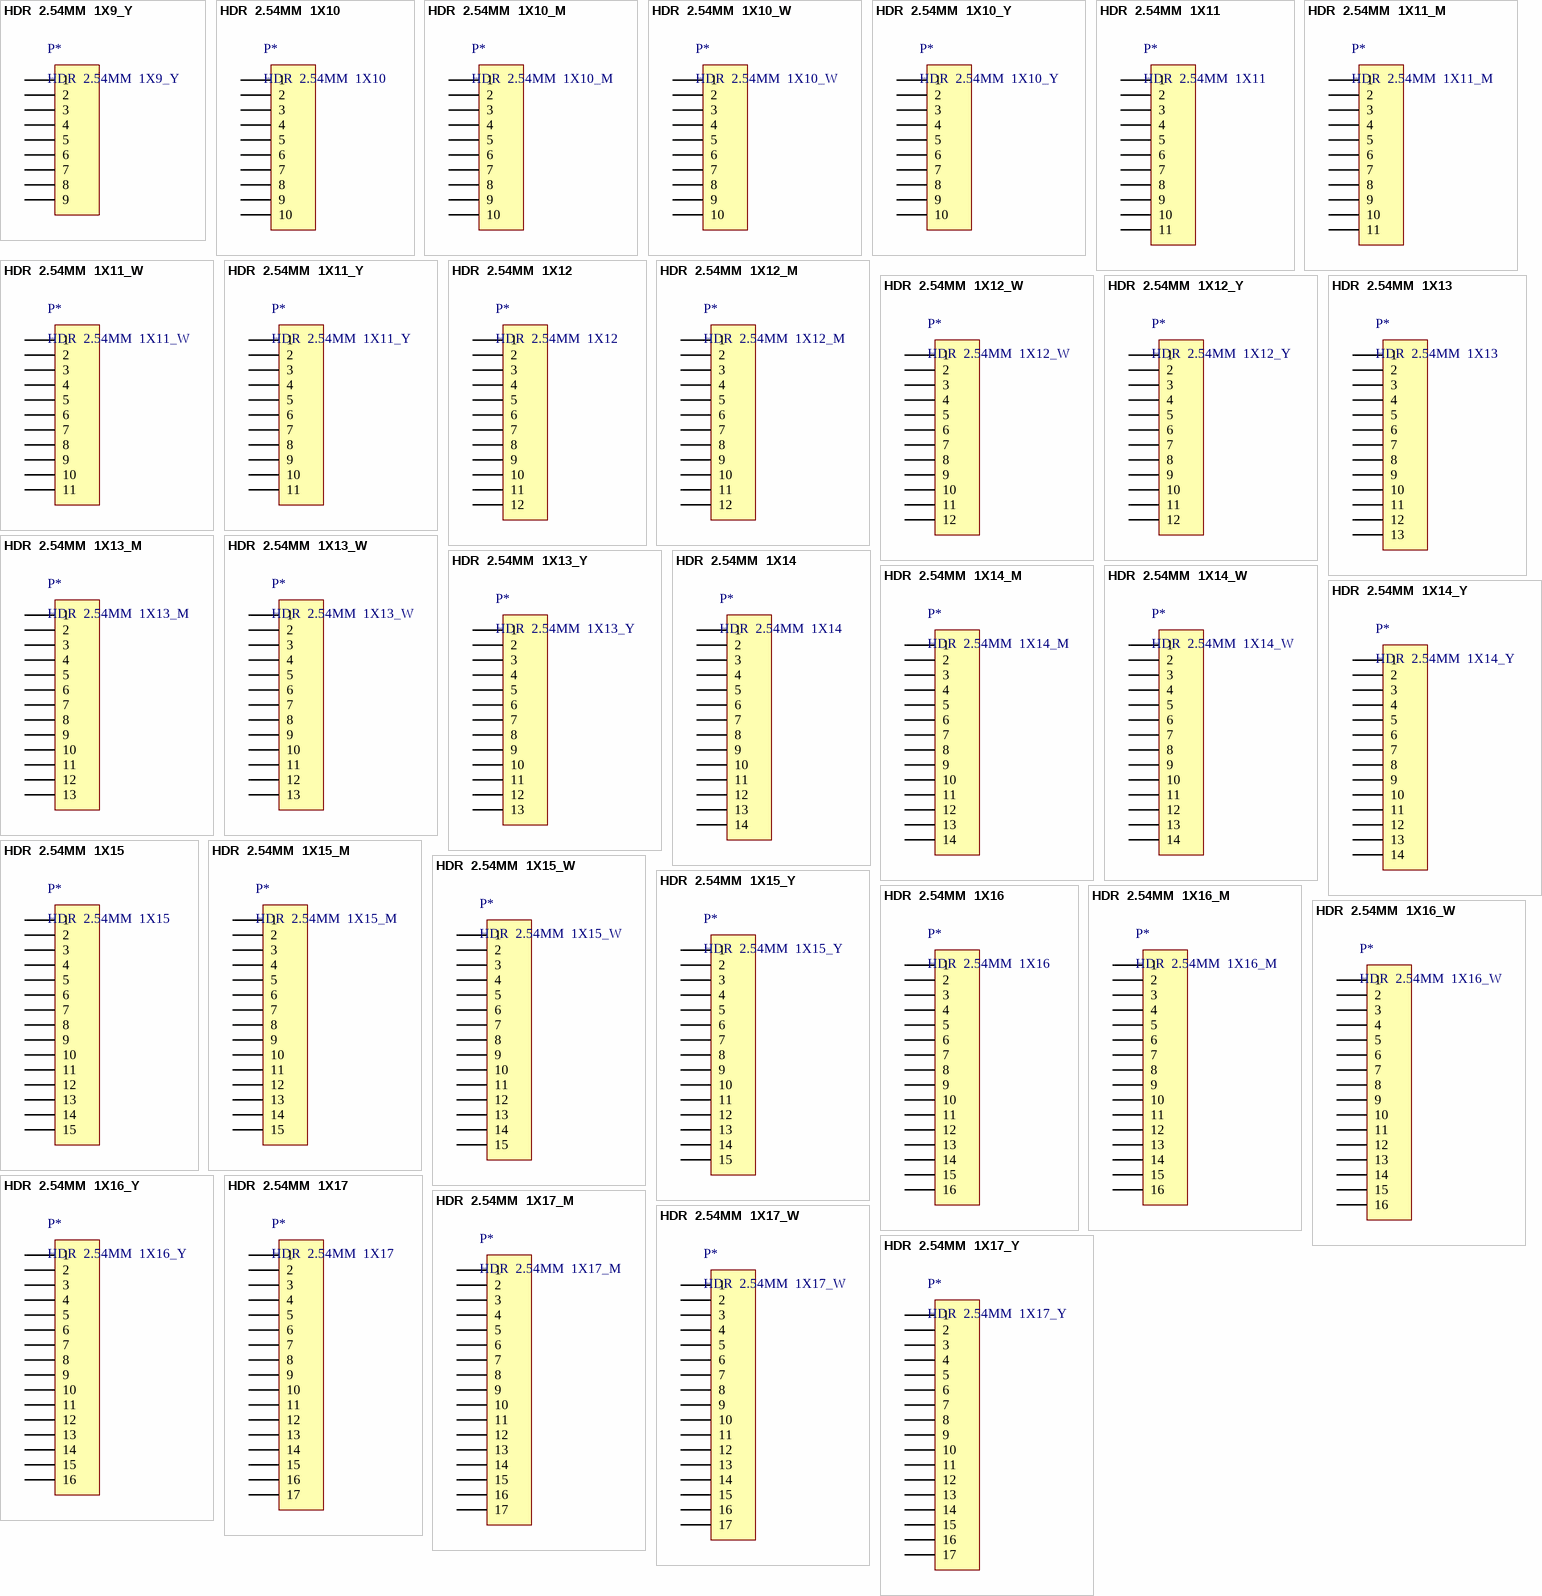
[diagram p5: symbols HDR  2.54MM  1X9_Y to HDR  2.54MM  1X17_Y]

## HDR  2.54MM  1X9_Y
designator P*
仓库名称: 五金仓; 加工方式: 插件; 助记码: *; 单位: *; 备注: *; 我李代沫: *; 物料名称: *; 规格型号: *
footprint HDR-1X9_Y (圆孔排母，9脚)
pins: 1, 2, 3, 4, 5, 6, 7, 8, 9

## HDR  2.54MM  1X10
designator P*
仓库名称: 五金仓; 加工方式: 插件; 助记码: *; 单位: *; 备注: *; 物料代码: *; 物料名称: *; 规格型号: *
footprint HDR-1X10 (排针，10脚)
pins: 1, 2, 3, 4, 5, 6, 7, 8, 9, 10

## HDR  2.54MM  1X10_M
designator P*
仓库名称: 五金仓; 加工方式: 插件; 物料名称: *; 规格型号: *; 助记码: *; 单位: *; 备注: *; 物料代码: *
footprint HDR-1X10_M (排母，10脚)
pins: 1, 2, 3, 4, 5, 6, 7, 8, 9, 10

## HDR  2.54MM  1X10_W
designator P*
仓库名称: 五金仓; 加工方式: 插件; 规格型号: *; 备注: *; 助记码: *; 单位: *; 物料代码: *
footprint HDR-1X10_W (弯脚排针，10脚)
pins: 1, 2, 3, 4, 5, 6, 7, 8, 9, 10

## HDR  2.54MM  1X10_Y
designator P*
仓库名称: 五金仓; 加工方式: 插件; 规格型号: *; 物料名称: *; 助记码: *; 单位: *; 物料代码: *; 备注: *
footprint HDR-1X10_Y (圆孔排母，10脚)
pins: 1, 2, 3, 4, 5, 6, 7, 8, 9, 10

## HDR  2.54MM  1X11
designator P*
仓库名称: 五金仓; 加工方式: 插件; 物料名称: *; 规格型号: *; 备注: *; 物料代码: *; 单位: *; 助记码: *
footprint HDR-1X11 (排针)
pins: 1, 2, 3, 4, 5, 6, 7, 8, 9, 10, 11

## HDR  2.54MM  1X11_M
designator P*
仓库名称: 五金仓; 加工方式: 插件; 物料代码: *; 助记码: *; 备注: *; 单位: *; 物料名称: *; 规格型号: *
footprint HDR-1X11_M (排母，11脚)
pins: 1, 2, 3, 4, 5, 6, 7, 8, 9, 10, 11

## HDR  2.54MM  1X11_W
designator P*
仓库名称: 五金仓; 加工方式: 插件; 规格型号: *; 物料名称: *; 助记码: *; 单位: *; 备注: *; 物料代码: *
footprint HDR-1X11_W (弯脚排针，11脚)
pins: 1, 2, 3, 4, 5, 6, 7, 8, 9, 10, 11

## HDR  2.54MM  1X11_Y
designator P*
仓库名称: 五金仓; 加工方式: 插件; 单位: *; 助记码: *; 备注: *; 物料代码: *; 物料名称: *; 规格型号: *
footprint HDR-1X11_Y (圆孔排母，11脚)
pins: 1, 2, 3, 4, 5, 6, 7, 8, 9, 10, 11

## HDR  2.54MM  1X12
designator P*
仓库名称: 五金仓; 加工方式: 插件; 助记码: *; 备注: *; 物料代码: *; 规格型号: *; 单位: *; 物料名称: *
footprint HDR-1X12 (排针，13脚)
pins: 1, 2, 3, 4, 5, 6, 7, 8, 9, 10, 11, 12

## HDR  2.54MM  1X12_M
designator P*
仓库名称: 五金仓; 加工方式: 插件; 规格型号: *; 物料名称: *; 助记码: *; 单位: *; 备注: *; 物料代码: *
footprint HDR-1X12_M (排母，12脚)
pins: 1, 2, 3, 4, 5, 6, 7, 8, 9, 10, 11, 12

## HDR  2.54MM  1X12_W
designator P*
仓库名称: 五金仓; 加工方式: 插件; 规格型号: *; 助记码: *; 单位: *; 备注: *; 物料代码: *; 物料名称: *
footprint HDR-1X12_W (弯脚排针，12脚)
pins: 1, 2, 3, 4, 5, 6, 7, 8, 9, 10, 11, 12

## HDR  2.54MM  1X12_Y
designator P*
仓库名称: 五金仓; 加工方式: 插件; 物料名称: *; 规格型号: *; 单位: *; 助记码: *; 物料代码: *; 备注: *
footprint HDR-1X12_Y (圆孔排母，12脚)
pins: 1, 2, 3, 4, 5, 6, 7, 8, 9, 10, 11, 12

## HDR  2.54MM  1X13
designator P*
仓库名称: 五金仓; 加工方式: 插件; 单位: *; 助记码: *; 备注: *; 物料代码: *; 物料名称: *; 规格型号: *
footprint HDR-1X13 (排针，13脚)
pins: 1, 2, 3, 4, 5, 6, 7, 8, 9, 10, 11, 12, 13

## HDR  2.54MM  1X13_M
designator P*
加工方式: 插件; 规格型号: *; 物料代码: *; 助记码: *; 单位: *; 仓库名称: *; 物料名称: *; 备注: *
footprint HDR-1X13_M (排母，13脚)
pins: 1, 2, 3, 4, 5, 6, 7, 8, 9, 10, 11, 12, 13

## HDR  2.54MM  1X13_W
designator P*
仓库名称: 五金仓; 加工方式: 插件; 助记码: *; 物料名称: *; 单位: *; 备注: *; 物料代码: *; 规格型号: *
footprint HDR-1X13_W (弯脚排针，13脚)
pins: 1, 2, 3, 4, 5, 6, 7, 8, 9, 10, 11, 12, 13

## HDR  2.54MM  1X13_Y
designator P*
仓库名称: 五金仓; 加工方式: 插件; 单位: *; 助记码: *; 备注: *; 物料代码: *; 物料名称: *; 规格型号: *
footprint HDR-1X13_Y (圆孔排母，13脚)
pins: 1, 2, 3, 4, 5, 6, 7, 8, 9, 10, 11, 12, 13

## HDR  2.54MM  1X14
designator P*
仓库名称: 五金仓; 加工方式: 插件; 规格型号: *; 物料名称: *; 备注: *; 助记码: *; 单位: *; 物料代码: *
footprint HDR-1X14 (排针，14脚)
pins: 1, 2, 3, 4, 5, 6, 7, 8, 9, 10, 11, 12, 13, 14

## HDR  2.54MM  1X14_M
designator P*
仓库名称: 五金仓; 加工方式: 插件; 物料代码: *; 规格型号: *; 单位: *; 物料名称: *; 备注: *; 助记码: *
footprint HDR-1X14_M (排母，14脚)
pins: 1, 2, 3, 4, 5, 6, 7, 8, 9, 10, 11, 12, 13, 14

## HDR  2.54MM  1X14_W
designator P*
仓库名称: 五金仓; 加工方式: 插件; 物料名称: *; 规格型号: *; 单位: *; 备注: *; 物料代码: *
footprint HDR-1X14_W (弯脚排针，14脚)
pins: 1, 2, 3, 4, 5, 6, 7, 8, 9, 10, 11, 12, 13, 14

## HDR  2.54MM  1X14_Y
designator P*
仓库名称: 五金仓; 加工方式: 插件; 助记码: *; 单位: *; 备注: *; 物料代码: *; 物料名称: *; 规格型号: *
footprint HDR-1X14_Y (圆孔排母，14脚)
pins: 1, 2, 3, 4, 5, 6, 7, 8, 9, 10, 11, 12, 13, 14

## HDR  2.54MM  1X15
designator P*
仓库名称: 五金仓; 加工方式: 插件; 物料名称: *; 规格型号: *; 助记码: *; 单位: *; 备注: *; 物料代码: *
footprint HDR-1X15 (排针，15脚)
pins: 1, 2, 3, 4, 5, 6, 7, 8, 9, 10, 11, 12, 13, 14, 15

## HDR  2.54MM  1X15_M
designator P*
仓库名称: 五金仓; 加工方式: 插件; 助记码: *; 备注: *; 物料代码: *; 单位: *; 物料名称: *; 规格型号: *
footprint HDR-1X15_M (排母，15脚)
pins: 1, 2, 3, 4, 5, 6, 7, 8, 9, 10, 11, 12, 13, 14, 15

## HDR  2.54MM  1X15_W
designator P*
仓库名称: 五金仓; 加工方式: 插件; 规格型号: *; 物料名称: *; 助记码: *; 单位: *; 备注: *; 物料代码: *
footprint HDR-1X15_W (弯脚排针，15脚)
pins: 1, 2, 3, 4, 5, 6, 7, 8, 9, 10, 11, 12, 13, 14, 15

## HDR  2.54MM  1X15_Y
designator P*
仓库名称: 五金仓; 加工方式: 插件; 备注: *; 单位: *; 助记码: *; 物料代码: *; 物料名称: *; 规格型号: *
footprint HDR-1X15_Y (圆孔排母，15脚)
pins: 1, 2, 3, 4, 5, 6, 7, 8, 9, 10, 11, 12, 13, 14, 15

## HDR  2.54MM  1X16
designator P*
仓库名称: 五金仓; 加工方式: 插件; 助记码: *; 单位: *; 备注: *; 物料代码: *; 物料名称: *; 规格型号: *
footprint HDR-1X16 (排针，16脚)
pins: 1, 2, 3, 4, 5, 6, 7, 8, 9, 10, 11, 12, 13, 14, 15, 16

## HDR  2.54MM  1X16_M
designator P*
仓库名称: 五金仓; 加工方式: 插件; 助记码: *; 规格型号: *; 物料代码: *; 物料名称: *; 单位: *; 备注: *
footprint HDR-1X16_M (排母，16脚)
pins: 1, 2, 3, 4, 5, 6, 7, 8, 9, 10, 11, 12, 13, 14, 15, 16

## HDR  2.54MM  1X16_W
designator P*
仓库名称: 五金仓; 加工方式: 插件; 助记码: *; 单位: *; 备注: *; 物料代码: *; 物料名称: *; 规格型号: *
footprint HDR-1X16_W (弯脚排针，16脚)
pins: 1, 2, 3, 4, 5, 6, 7, 8, 9, 10, 11, 12, 13, 14, 15, 16

## HDR  2.54MM  1X16_Y
designator P*
仓库名称: 五金仓; 加工方式: 插件; 物料名称: *; 规格型号: *; 助记码: *; 单位: *; 备注: *; 物料代码: *
footprint HDR-1X16_Y (圆孔排母，16脚)
pins: 1, 2, 3, 4, 5, 6, 7, 8, 9, 10, 11, 12, 13, 14, 15, 16

## HDR  2.54MM  1X17
designator P*
仓库名称: 五金仓; 加工方式: 插件; 单位: *; 助记码: *; 备注: *; 规格型号: *; 物料名称: *; 物料代码: *
footprint HDR-1X17 (排针，17脚)
pins: 1, 2, 3, 4, 5, 6, 7, 8, 9, 10, 11, 12, 13, 14, 15, 16, 17

## HDR  2.54MM  1X17_M
designator P*
仓库名称: 五金仓; 加工方式: 插件; 助记码: *; 单位: *; 备注: *; 物料名称: *; 规格型号: *; 物料代码: *
footprint HDR-1X17_M (排母，17脚)
pins: 1, 2, 3, 4, 5, 6, 7, 8, 9, 10, 11, 12, 13, 14, 15, 16, 17

## HDR  2.54MM  1X17_W
designator P*
仓库名称: 五金仓; 加工方式: 插件; 物料名称: *; 规格型号: *; 助记码: *; 单位: *; 备注: *; 物料代码: *
footprint HDR-1X17_W (弯脚排针，17脚)
pins: 1, 2, 3, 4, 5, 6, 7, 8, 9, 10, 11, 12, 13, 14, 15, 16, 17

## HDR  2.54MM  1X17_Y
designator P*
仓库名称: 五金仓; 加工方式: 插件; 物料名称: *; 规格型号: *; 物料代码: *; 助记码: *; 单位: *; 备注: *
footprint HDR-1X17_Y (圆孔排母，17脚)
pins: 1, 2, 3, 4, 5, 6, 7, 8, 9, 10, 11, 12, 13, 14, 15, 16, 17

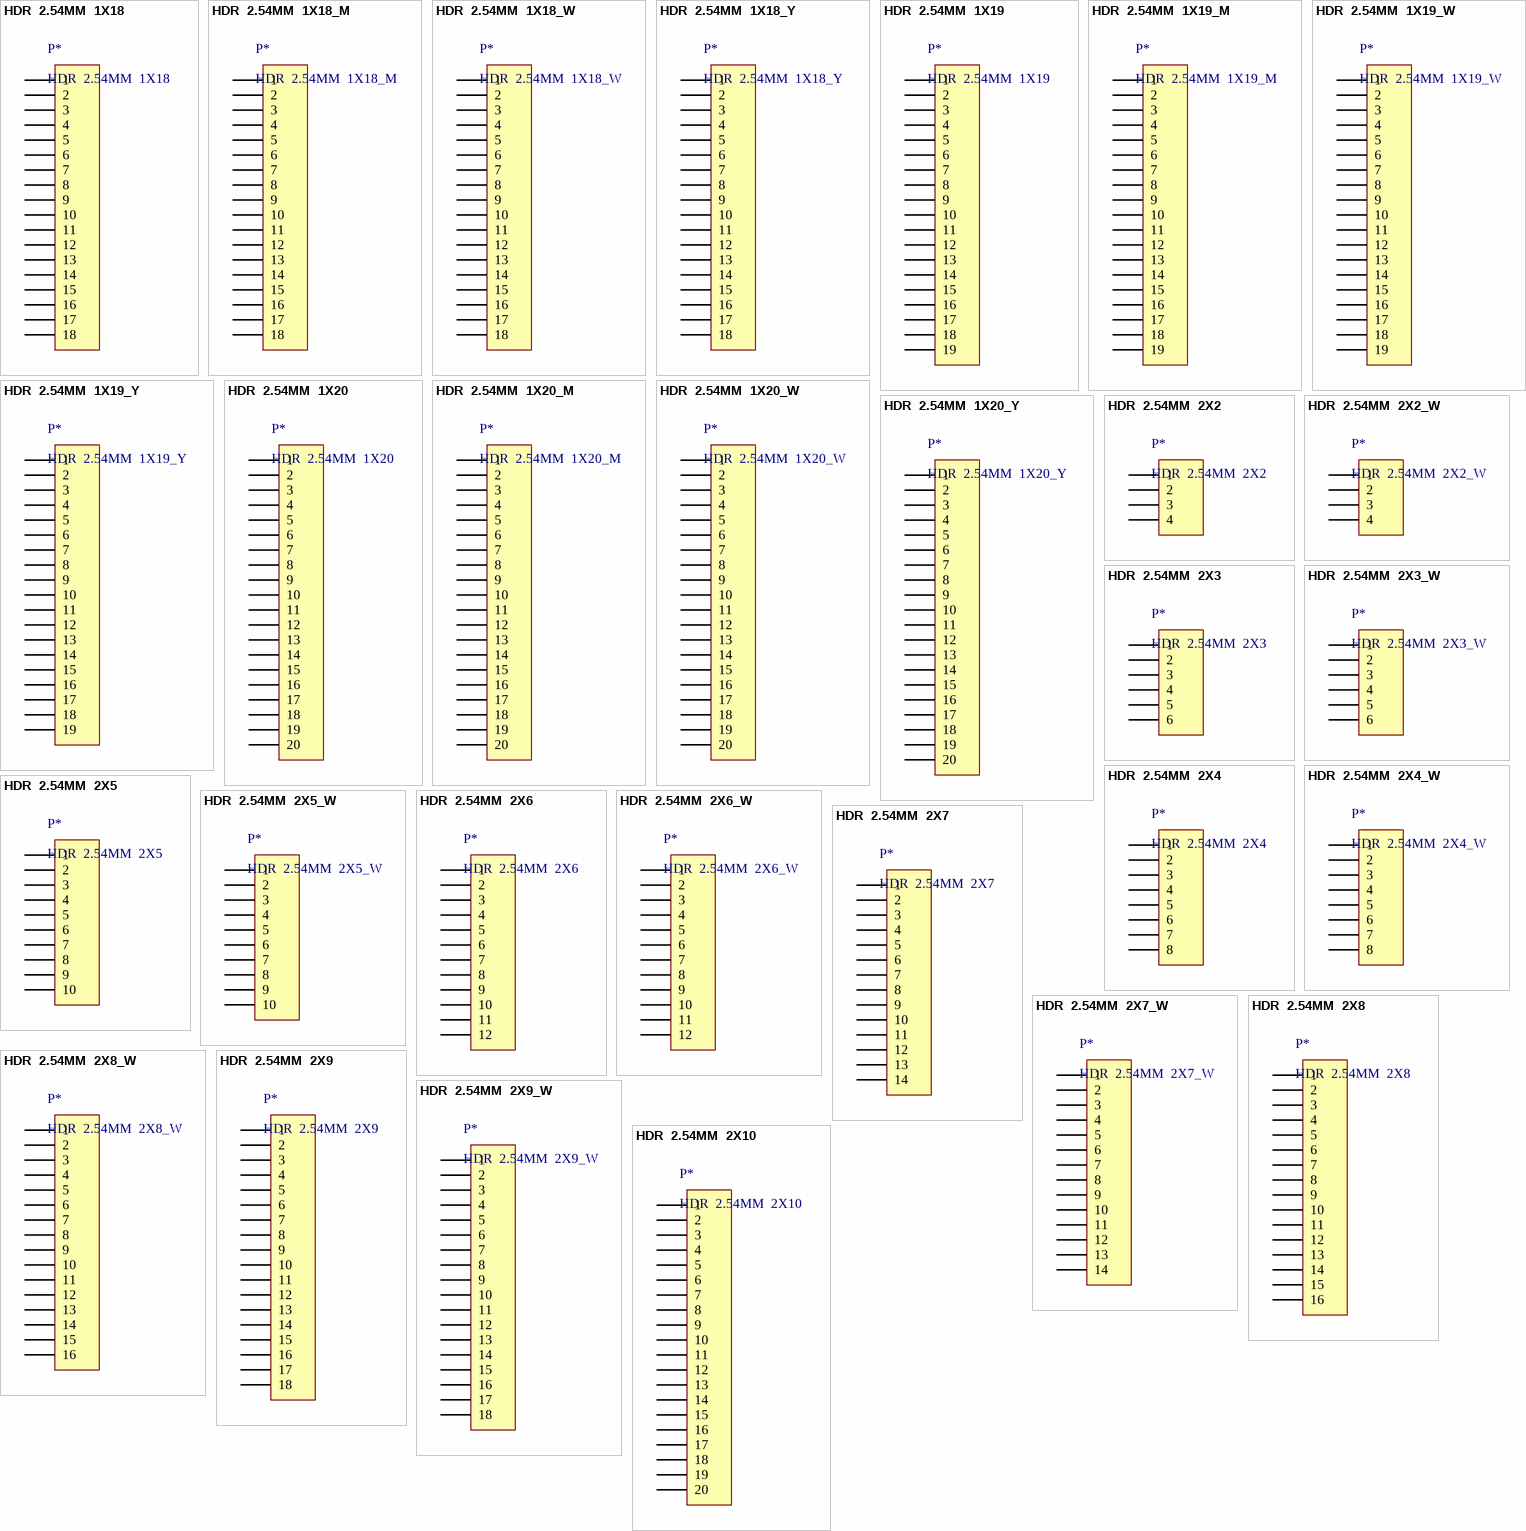
[diagram p6: symbols HDR  2.54MM  1X18 to HDR  2.54MM  2X10]

## HDR  2.54MM  1X18
designator P*
仓库名称: 五金仓; 加工方式: 插件; 助记码: *; 物料代码: *; 规格型号: *; 物料名称: *; 单位: *; 备注: *
footprint HDR-1X18 (排针，18脚)
pins: 1, 2, 3, 4, 5, 6, 7, 8, 9, 10, 11, 12, 13, 14, 15, 16, 17, 18

## HDR  2.54MM  1X18_M
designator P*
仓库名称: 五金仓; 加工方式: 插件; 助记码: *; 单位: *; 备注: *; 物料代码: *; 物料名称: *; 规格型号: *
footprint HDR-1X18_M (排母，18脚)
pins: 1, 2, 3, 4, 5, 6, 7, 8, 9, 10, 11, 12, 13, 14, 15, 16, 17, 18

## HDR  2.54MM  1X18_W
designator P*
仓库名称: 五金仓; 加工方式: 插件; 单位: *; 备注: *; 助记码: *; 物料代码: *; 物料名称: *; 规格型号: *
footprint HDR-1X18_W (弯脚排针，18脚)
pins: 1, 2, 3, 4, 5, 6, 7, 8, 9, 10, 11, 12, 13, 14, 15, 16, 17, 18

## HDR  2.54MM  1X18_Y
designator P*
仓库名称: 五金仓; 加工方式: 插件; 助记码: *; 单位: *; 备注: *; 物料代码: *; 物料名称: *; 规格型号: *
footprint HDR-1X18_Y (圆孔排母，18脚)
pins: 1, 2, 3, 4, 5, 6, 7, 8, 9, 10, 11, 12, 13, 14, 15, 16, 17, 18

## HDR  2.54MM  1X19
designator P*
仓库名称: 五金仓; 加工方式: 插件; 助记码: *; 单位: *; 物料代码: *; 物料名称: *; 备注: *; 规格型号: *
footprint HDR-1X19 (排针，19脚)
pins: 1, 2, 3, 4, 5, 6, 7, 8, 9, 10, 11, 12, 13, 14, 15, 16, 17, 18, 19

## HDR  2.54MM  1X19_M
designator P*
仓库名称: 五金仓; 加工方式: 插件; 物料名称: *; 规格型号: *; 助记码: *; 单位: *; 备注: *; 物料代码: *
footprint HDR-1X19_M (排母，19脚)
pins: 1, 2, 3, 4, 5, 6, 7, 8, 9, 10, 11, 12, 13, 14, 15, 16, 17, 18, 19

## HDR  2.54MM  1X19_W
designator P*
仓库名称: 五金仓; 加工方式: 插件; 物料代码: *; 备注: *; 规格型号: *; 物料名称: *; 助记码: *; 单位: *
footprint HDR-1X19_W (弯脚排针，19脚)
pins: 1, 2, 3, 4, 5, 6, 7, 8, 9, 10, 11, 12, 13, 14, 15, 16, 17, 18, 19

## HDR  2.54MM  1X19_Y
designator P*
仓库名称: 五金仓; 加工方式: 插件; 物料名称: *; 规格型号: *; 助记码: *; 单位: *; 备注: *; 物料代码: *
footprint HDR-1X19_Y (圆孔排母，19脚)
pins: 1, 2, 3, 4, 5, 6, 7, 8, 9, 10, 11, 12, 13, 14, 15, 16, 17, 18, 19

## HDR  2.54MM  1X20
designator P*
仓库名称: 五金仓; 加工方式: 插件; 规格型号: *; 物料名称: *; 助记码: *; 单位: *; 备注: *; 物料代码: *
footprint HDR-1X20 (排针，20脚)
pins: 1, 2, 3, 4, 5, 6, 7, 8, 9, 10, 11, 12, 13, 14, 15, 16, 17, 18, 19, 20

## HDR  2.54MM  1X20_M
designator P*
仓库名称: 五金仓; 加工方式: 插件; 助记码: *; 单位: *; 物料代码: *; 物料名称: *; 备注: *; 规格型号: *
footprint HDR-1X20_M (排母，20脚)
pins: 1, 2, 3, 4, 5, 6, 7, 8, 9, 10, 11, 12, 13, 14, 15, 16, 17, 18, 19, 20

## HDR  2.54MM  1X20_W
designator P*
仓库名称: 五金仓; 加工方式: 插件; 物料代码: *; 规格型号: *; 辛苦名称: *; 助记码: *; 单位: *; 备注: *
footprint HDR-1X20_W (弯脚排针，20脚)
pins: 1, 2, 3, 4, 5, 6, 7, 8, 9, 10, 11, 12, 13, 14, 15, 16, 17, 18, 19, 20

## HDR  2.54MM  1X20_Y
designator P*
仓库名称: 五金仓; 加工方式: 插件; 物料名称: *; 规格型号: *; 物料代码: *; 单位: *; 助记码: *; 备注: *
footprint HDR-1X20_Y (圆孔排母，20脚)
pins: 1, 2, 3, 4, 5, 6, 7, 8, 9, 10, 11, 12, 13, 14, 15, 16, 17, 18, 19, 20

## HDR  2.54MM  2X2
designator P*
仓库名称: 五金仓; 加工方式: 插件; 规格型号: *; 物料代码: *; 物料名称: *; 助记码: *; 单位: *; 备注: *
footprint HDR-2X2 (双排排针，2x2脚)
pins: 1, 2, 3, 4

## HDR  2.54MM  2X2_W
designator P*
仓库名称: 五金仓; 加工方式: 插件; 规格型号: *; 物料名称: *; 助记码: *; 单位: *; 备注: *; 物料代码: *
footprint HDR-2X2_W (双排弯脚排针，2x2脚)
pins: 1, 2, 3, 4

## HDR  2.54MM  2X3
designator P*
仓库名称: 五金仓; 加工方式: 插件; 物料名称: *; 规格型号: *; 物料代码: *; 备注: *; 助记码: *; 单位: *
footprint HDR-3X2 (双排排针，3x2脚)
pins: 1, 2, 3, 4, 5, 6

## HDR  2.54MM  2X3_W
designator P*
仓库名称: 五金仓; 加工方式: 插件; 助记码: *; 单位: *; 备注: *; 物料代码: *; 物料名称: *; 规格型号: *
footprint HDR-3X2_W (双排弯脚排针，3x2脚)
pins: 1, 2, 3, 4, 5, 6

## HDR  2.54MM  2X4
designator P*
仓库名称: 五金仓; 加工方式: 插件; 助记码: *; 备注: *; 物料代码: *; 物料名称: *; 单位: *; 规格型号: *
footprint HDR-4X2 (双排排针，4x2脚)
pins: 1, 2, 3, 4, 5, 6, 7, 8

## HDR  2.54MM  2X4_W
designator P*
仓库名称: 五金仓; 加工方式: 插件; 规格型号: *; 物料名称: *; 单位: *; 助记码: *; 备注: *; 物料代码: *
footprint HDR-4X2_W (双排弯脚排针，4x2脚)
pins: 1, 2, 3, 4, 5, 6, 7, 8

## HDR  2.54MM  2X5
designator P*
仓库名称: 五金仓; 加工方式: 插件; 规格型号: *; 助记码: *; 单位: *; 备注: *; 物料代码: *; 物料名称: *
footprint HDR-5X2 (双排排针，5x2脚)
pins: 1, 2, 3, 4, 5, 6, 7, 8, 9, 10

## HDR  2.54MM  2X5_W
designator P*
仓库名称: 五金仓; 加工方式: 插件; 规格型号: *; 助记码: *; 备注: *; 物料代码: *; 物料名称: *; 单位: *
footprint HDR-5X2_W (双排弯脚排针，5x2脚)
pins: 1, 2, 3, 4, 5, 6, 7, 8, 9, 10

## HDR  2.54MM  2X6
designator P*
仓库名称: 五金仓; 加工方式: 插件; 物料代码: *; 备注: *; 单位: *; 助记码: *; 规格型号: *
footprint HDR-6X2 (双排排针，6x2脚)
pins: 1, 2, 3, 4, 5, 6, 7, 8, 9, 10, 11, 12

## HDR  2.54MM  2X6_W
designator P*
仓库名称: 五金仓; 加工方式: 插件; 助记码: *; 单位: *; 备注: *; 物料代码: *; 物料名称: *; 规格型号: *
footprint HDR-6X2_W (双排弯脚排针，6x2脚)
pins: 1, 2, 3, 4, 5, 6, 7, 8, 9, 10, 11, 12

## HDR  2.54MM  2X7
designator P*
仓库名称: 五金仓; 加工方式: 插件; 备注: *; 助记码: *; 单位: *; 物料代码: *; 物料名称: *; 规格型号: *
footprint HDR-7X2 (双排排针，7x2脚)
pins: 1, 2, 3, 4, 5, 6, 7, 8, 9, 10, 11, 12, 13, 14

## HDR  2.54MM  2X7_W
designator P*
仓库名称: 五金仓; 加工方式: 插件; 助记码: *; 单位: *; 备注: *; 物料代码: *; 物料名称: *; 规格型号: *
footprint HDR-7X2_W (双排弯脚排针，7x2脚)
pins: 1, 2, 3, 4, 5, 6, 7, 8, 9, 10, 11, 12, 13, 14

## HDR  2.54MM  2X8
designator P*
仓库名称: 五金仓; 加工方式: 插件; 助记码: *; 单位: *; 备注: *; 物料代码: *; 物料名称: *; 规格型号: *
footprint HDR-8X2 (双排排针，8x2脚)
pins: 1, 2, 3, 4, 5, 6, 7, 8, 9, 10, 11, 12, 13, 14, 15, 16

## HDR  2.54MM  2X8_W
designator P*
仓库名称: 五金仓; 加工方式: 插件; 物料代码: *; 单位: *; 备注: *; 助记码: *; 规格型号: *; 物料名称: *
footprint HDR-8X2_W (双排弯脚排针，8x2脚)
pins: 1, 2, 3, 4, 5, 6, 7, 8, 9, 10, 11, 12, 13, 14, 15, 16

## HDR  2.54MM  2X9
designator P*
仓库名称: 五金仓; 加工方式: 插件; 单位: *; 助记码: *; 备注: *; 我看的吗: *; 物料名称: *; 规格型号: *
footprint HDR-9X2 (双排排针，9x2脚)
pins: 1, 2, 3, 4, 5, 6, 7, 8, 9, 10, 11, 12, 13, 14, 15, 16, 17, 18

## HDR  2.54MM  2X9_W
designator P*
仓库名称: 五金仓; 加工方式: 插件; 助记码: *; 单位: *; 备注: *; 物料代码: *; 物料名称: *; 规格型号: *
footprint HDR-9X2_W (双排弯脚排针，9x2脚)
pins: 1, 2, 3, 4, 5, 6, 7, 8, 9, 10, 11, 12, 13, 14, 15, 16, 17, 18

## HDR  2.54MM  2X10
designator P*
仓库名称: 五金仓; 加工方式: 插件; 助记码: *; 单位: *; 物料代码: *; 物料名称: *; 规格型号: *; 备注: *
footprint HDR-10X2 (双排排针，10x2脚)
pins: 1, 2, 3, 4, 5, 6, 7, 8, 9, 10, 11, 12, 13, 14, 15, 16, 17, 18, 19, 20

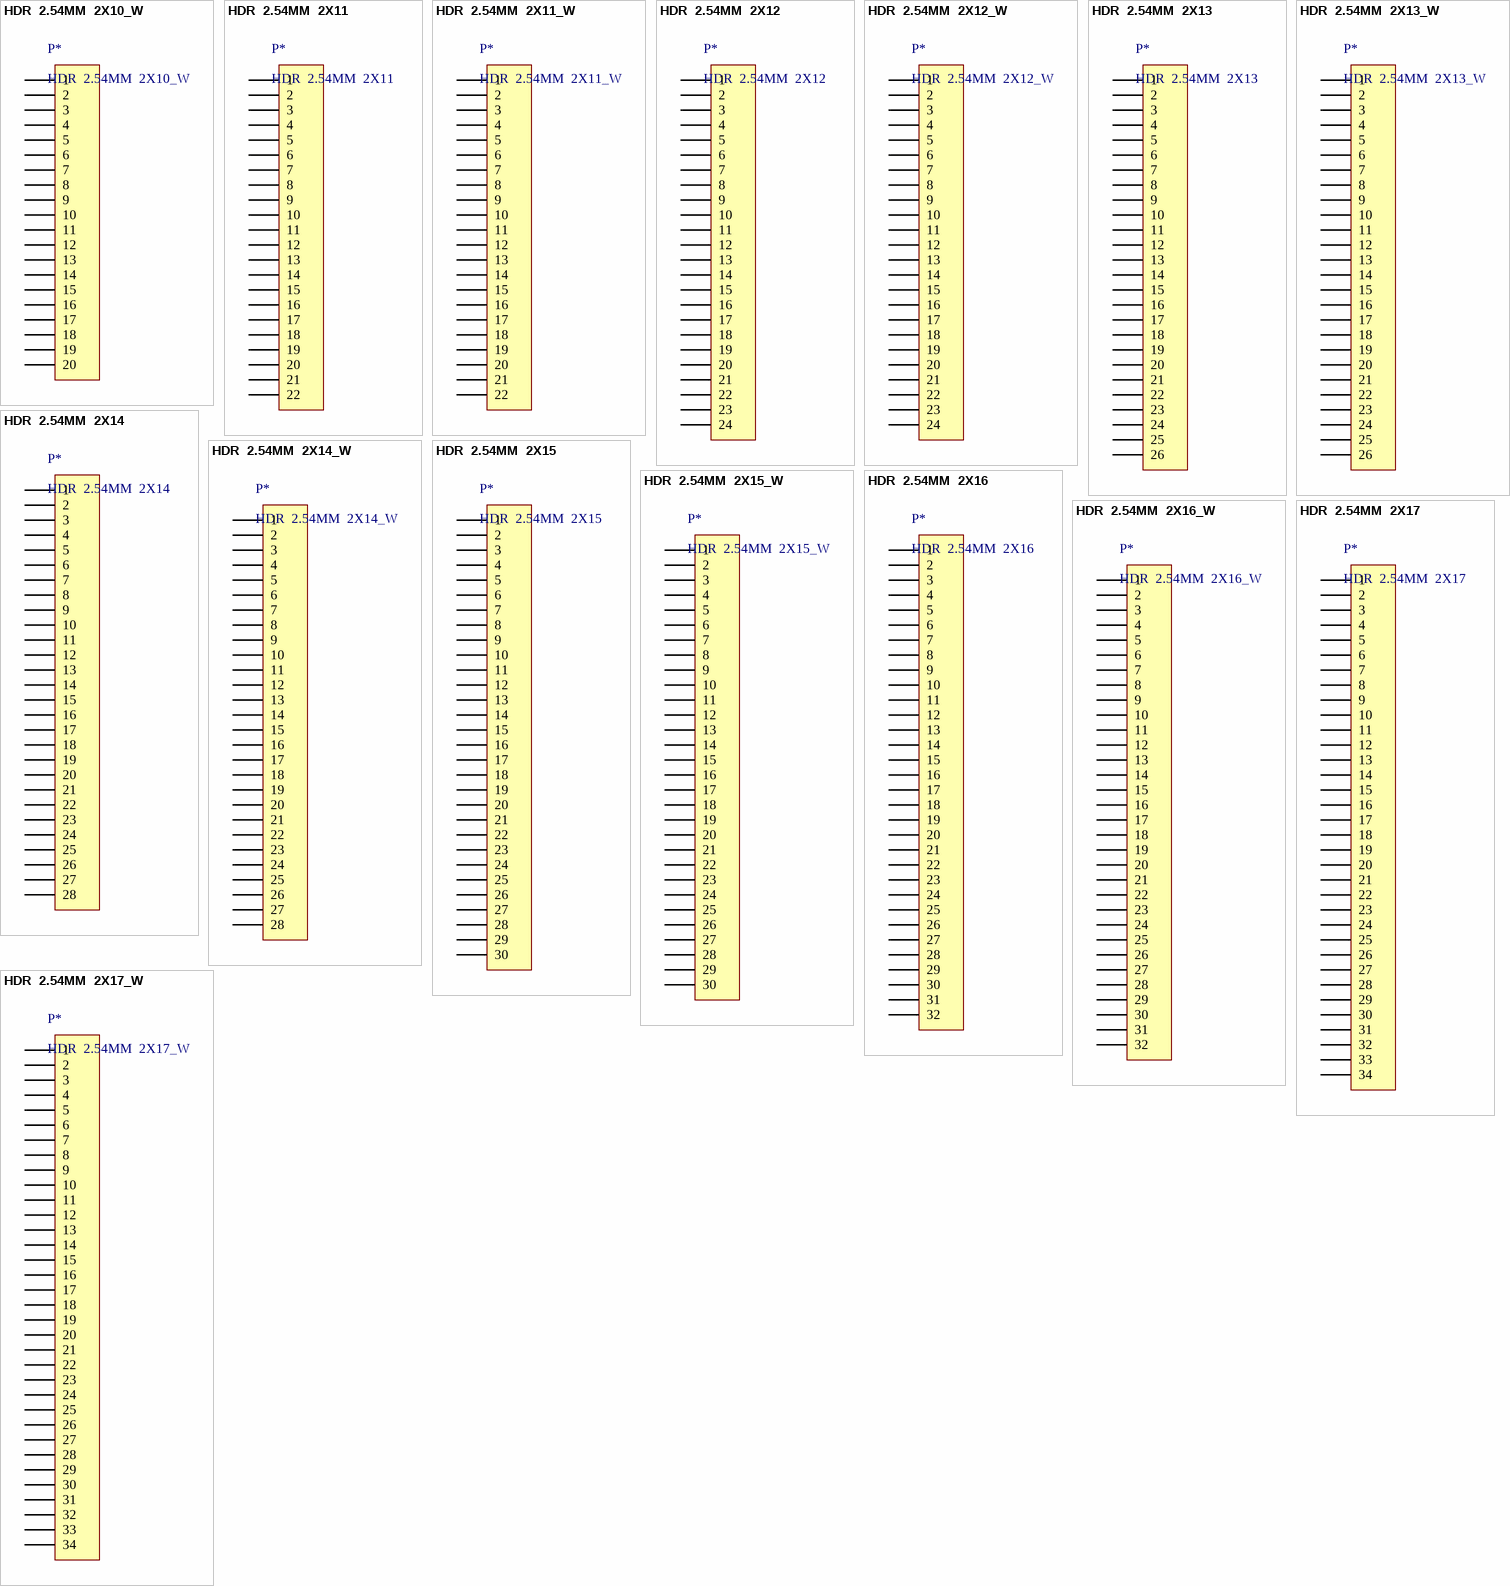
[diagram p7: symbols HDR  2.54MM  2X10_W to HDR  2.54MM  2X17_W]

## HDR  2.54MM  2X10_W
designator P*
仓库名称: 五金仓; 加工方式: 插件; 物料名称: *; 规格型号: *; 单位: *; 助记码: *; 备注: *; 物料代码: *
footprint HDR-10X2_W
pins: 1, 2, 3, 4, 5, 6, 7, 8, 9, 10, 11, 12, 13, 14, 15, 16, 17, 18, 19, 20

## HDR  2.54MM  2X11
designator P*
仓库名称: 五金仓; 加工方式: 插件; 助记码: *; 单位: *; 规格型号: *; 物料名称: *; 物料代码: *
footprint HDR-11X2 (双排排针，11x2脚)
pins: 1, 2, 3, 4, 5, 6, 7, 8, 9, 10, 11, 12, 13, 14, 15, 16, 17, 18, 19, 20, 21, 22

## HDR  2.54MM  2X11_W
designator P*
仓库名称: 五金仓; 加工方式: 插件; 助记码: *; 单位: *; 备注: *; 物料代码: *; 物料名称: *; 规格型号: *
footprint HDR-11X2_W (双排弯脚排针，11x2脚)
pins: 1, 2, 3, 4, 5, 6, 7, 8, 9, 10, 11, 12, 13, 14, 15, 16, 17, 18, 19, 20, 21, 22

## HDR  2.54MM  2X12
designator P*
仓库名称: 五金仓; 加工方式: 插件; 助记码: *; 单位: *; 物料代码: *; 物料名称: *; 备注: *; 规格型号: *
footprint HDR-12X2 (双排排针，12x2脚)
pins: 1, 2, 3, 4, 5, 6, 7, 8, 9, 10, 11, 12, 13, 14, 15, 16, 17, 18, 19, 20, 21, 22, 23, 24

## HDR  2.54MM  2X12_W
designator P*
仓库名称: 五金仓; 加工方式: 插件; 助记码: *; 单位: *; 备注: *; 物料代码: *; 规格型号: *
footprint HDR-12X2_W (双排弯脚排针，12x2脚)
pins: 1, 2, 3, 4, 5, 6, 7, 8, 9, 10, 11, 12, 13, 14, 15, 16, 17, 18, 19, 20, 21, 22, 23, 24

## HDR  2.54MM  2X13
designator P*
仓库名称: 五金仓; 加工方式: 插件; 助记码: *; 单位: *; 备注: *; 物料代码: *; 物料名称: *; 规格型号: *
footprint HDR-13X2 (双排排针，13x2脚)
pins: 1, 2, 3, 4, 5, 6, 7, 8, 9, 10, 11, 12, 13, 14, 15, 16, 17, 18, 19, 20, 21, 22, 23, 24, 25, 26

## HDR  2.54MM  2X13_W
designator P*
仓库名称: 五金仓; 加工方式: 插件; 备注: *; 物料代码: *; 单位: *; 助记码: *; 物料名称: *; 规格型号: *
footprint HDR-13X2_W (双排弯脚排针，13x2脚)
pins: 1, 2, 3, 4, 5, 6, 7, 8, 9, 10, 11, 12, 13, 14, 15, 16, 17, 18, 19, 20, 21, 22, 23, 24, 25, 26

## HDR  2.54MM  2X14
designator P*
仓库名称: 五金仓; 加工方式: 插件; 助记码: *; 单位: *; 备注: *; 物料代码: *; 物料名称: *; 规格型号: *
footprint HDR-14X2 (双排排针，14x2脚)
pins: 1, 2, 3, 4, 5, 6, 7, 8, 9, 10, 11, 12, 13, 14, 15, 16, 17, 18, 19, 20, 21, 22, 23, 24, 25, 26, 27, 28

## HDR  2.54MM  2X14_W
designator P*
加工方式: 插件; 仓库名称: 五金仓; 物料代码: *; 物料名称: *; 助记码: *; 规格型号: *; 单位: *
footprint HDR-14X2_W (双排弯脚排针，14x2脚)
pins: 1, 2, 3, 4, 5, 6, 7, 8, 9, 10, 11, 12, 13, 14, 15, 16, 17, 18, 19, 20, 21, 22, 23, 24, 25, 26, 27, 28

## HDR  2.54MM  2X15
designator P*
仓库名称: 五金仓; 加工方式: 插件; 单位: *; 助记码: *; 备注: *; 物料代码: *; 物料名称: *; 规格型号: *
footprint HDR-15X2 (双排排针，15x2脚)
pins: 1, 2, 3, 4, 5, 6, 7, 8, 9, 10, 11, 12, 13, 14, 15, 16, 17, 18, 19, 20, 21, 22, 23, 24, 25, 26, 27, 28, 29, 30

## HDR  2.54MM  2X15_W
designator P*
仓库名称: 五金仓; 加工方式: 插件; 物料名称: *; 规格型号: *; 单位: *; 助记码: *; 备注: *; 物料代码: *
footprint HDR-15X2_W (双排弯脚排针，15x2脚)
pins: 1, 2, 3, 4, 5, 6, 7, 8, 9, 10, 11, 12, 13, 14, 15, 16, 17, 18, 19, 20, 21, 22, 23, 24, 25, 26, 27, 28, 29, 30

## HDR  2.54MM  2X16
designator P*
仓库名称: 五金仓; 加工方式: 插件; 物料名称: *; 规格型号: *; 助记码: *; 单位: *; 备注: *; 物料代码: *
footprint HDR-16X2 (双排排针，16x2脚)
pins: 1, 2, 3, 4, 5, 6, 7, 8, 9, 10, 11, 12, 13, 14, 15, 16, 17, 18, 19, 20, 21, 22, 23, 24, 25, 26, 27, 28, 29, 30, 31, 32

## HDR  2.54MM  2X16_W
designator P*
仓库名称: 五金仓; 加工方式: 插件; 物料名称: *; 规格型号: *; 单位: *; 助记码: *; 物料代码: *; 备注: *
footprint HDR-16X2_W (双排弯脚排针，16x2脚)
pins: 1, 2, 3, 4, 5, 6, 7, 8, 9, 10, 11, 12, 13, 14, 15, 16, 17, 18, 19, 20, 21, 22, 23, 24, 25, 26, 27, 28, 29, 30, 31, 32

## HDR  2.54MM  2X17
designator P*
仓库名称: 五金仓; 加工方式: 插件; 物料名称: *; 规格型号: *; 物料代码: *; 助记码: *; 单位: *; 备注: *
footprint HDR-17X2 (双排排针，17x2脚)
pins: 1, 2, 3, 4, 5, 6, 7, 8, 9, 10, 11, 12, 13, 14, 15, 16, 17, 18, 19, 20, 21, 22, 23, 24, 25, 26, 27, 28, 29, 30, 31, 32, 33, 34

## HDR  2.54MM  2X17_W
designator P*
仓库名称: 五金仓; 加工方式: 插件; 单位: *; 助记码: *; 规格型号: *; 备注: *; 物料代码: *; 物料名称: *
footprint HDR-17X2_W (双排弯脚排针，17x2脚)
pins: 1, 2, 3, 4, 5, 6, 7, 8, 9, 10, 11, 12, 13, 14, 15, 16, 17, 18, 19, 20, 21, 22, 23, 24, 25, 26, 27, 28, 29, 30, 31, 32, 33, 34

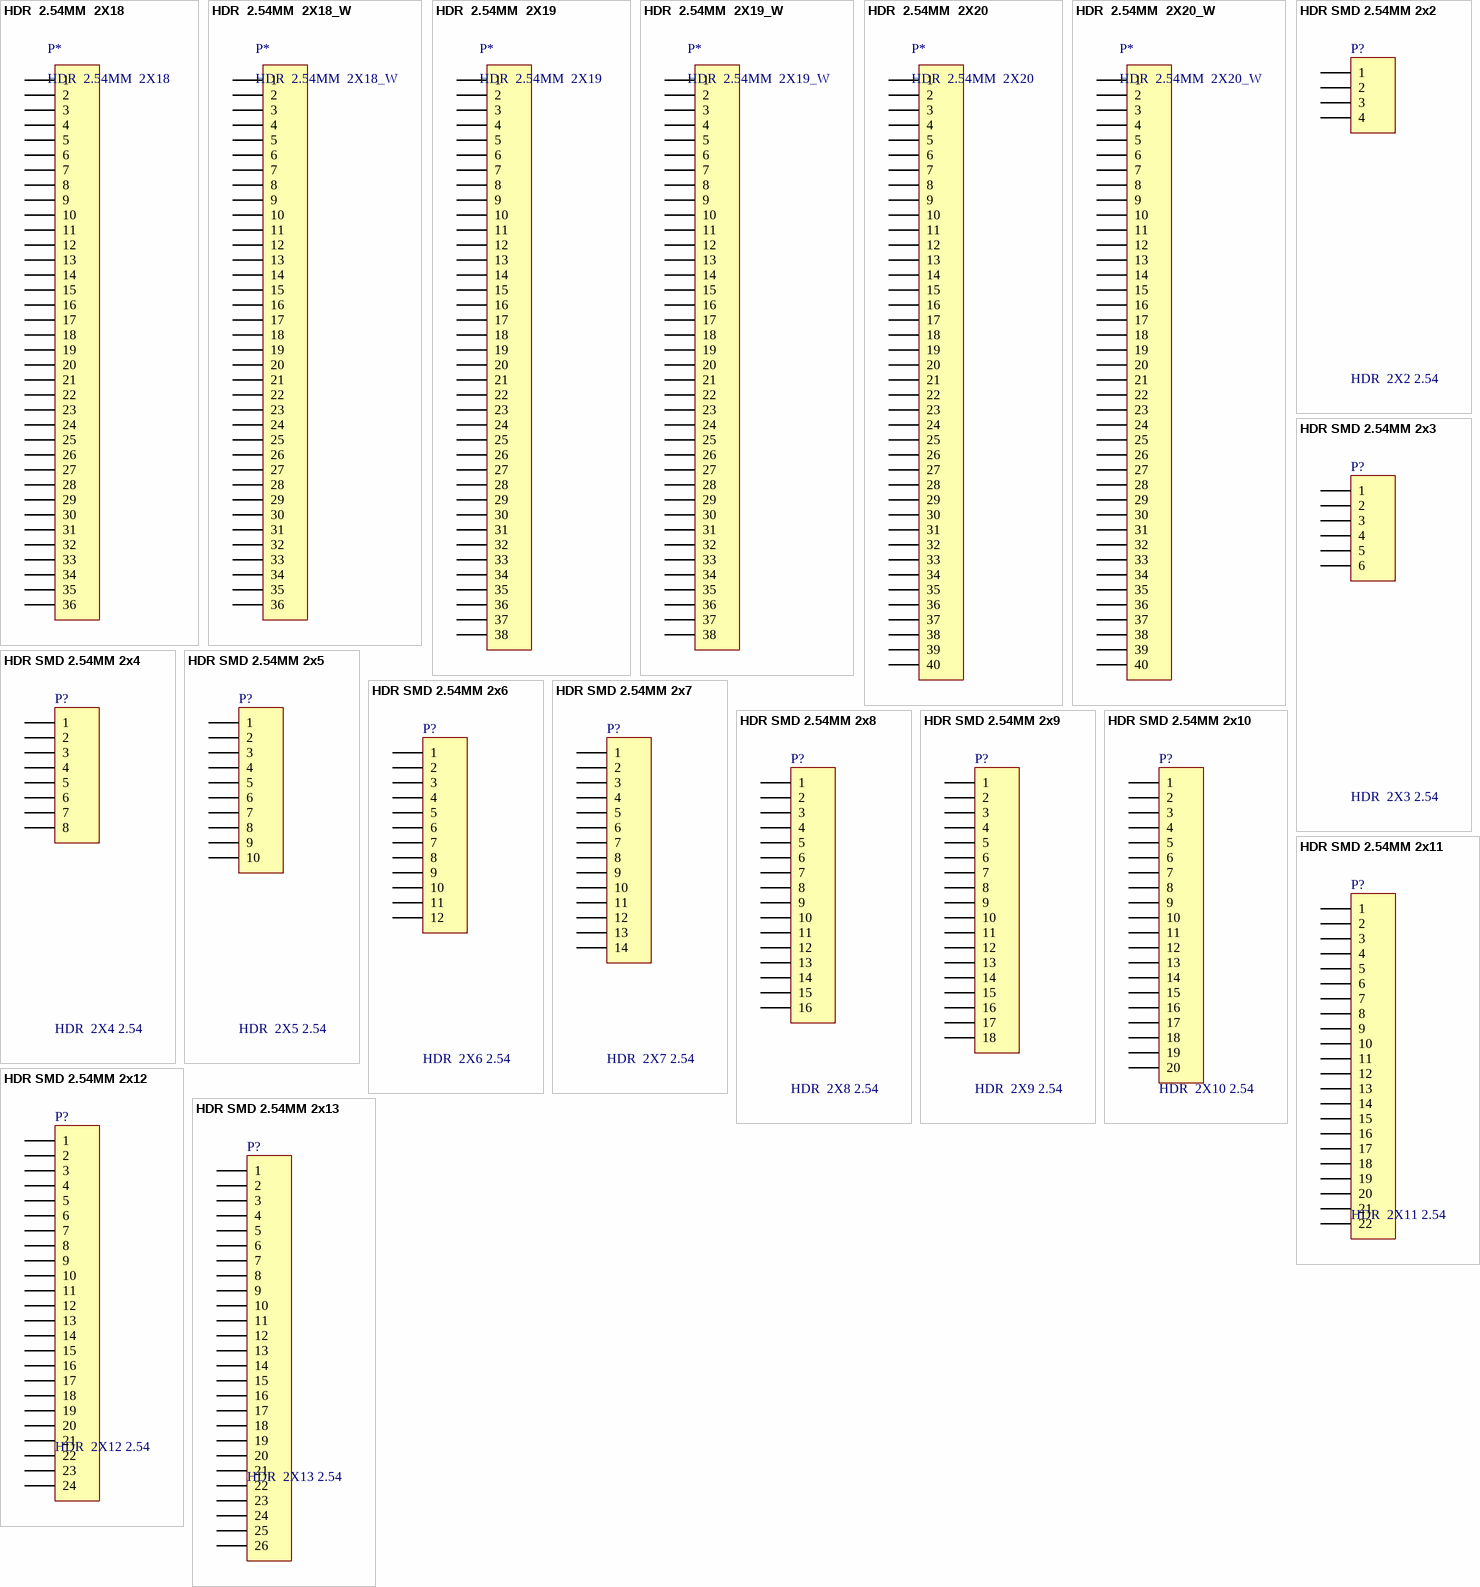
[diagram p8: symbols HDR  2.54MM  2X18 to HDR SMD 2.54MM 2x13]

## HDR  2.54MM  2X18
designator P*
仓库名称: 五金仓; 加工方式: 插件; 助记码: *; 规格型号: *; 单位: *; 备注: *; 物料代码: *; 物料名称: *
footprint HDR-18X2 (双排排针，18x2脚)
pins: 1, 2, 3, 4, 5, 6, 7, 8, 9, 10, 11, 12, 13, 14, 15, 16, 17, 18, 19, 20, 21, 22, 23, 24, 25, 26, 27, 28, 29, 30, 31, 32, 33, 34, 35, 36

## HDR  2.54MM  2X18_W
designator P*
仓库名称: 五金仓; 加工方式: 插件; 物料名称: *; 规格型号: *; 单位: *; 物料代码: *; 助记码: *; 备注: *
footprint HDR-18X2_W (双排弯脚排针，18x2脚)
pins: 1, 2, 3, 4, 5, 6, 7, 8, 9, 10, 11, 12, 13, 14, 15, 16, 17, 18, 19, 20, 21, 22, 23, 24, 25, 26, 27, 28, 29, 30, 31, 32, 33, 34, 35, 36

## HDR  2.54MM  2X19
designator P*
仓库名称: 五金仓; 加工方式: 插件; 物料名称: *; 规格型号: *; 助记码: *; 物料代码: *; 单位: *; 备注: *
footprint HDR-19X2 (双排排针，19x2脚)
pins: 1, 2, 3, 4, 5, 6, 7, 8, 9, 10, 11, 12, 13, 14, 15, 16, 17, 18, 19, 20, 21, 22, 23, 24, 25, 26, 27, 28, 29, 30, 31, 32, 33, 34, 35, 36, 37, 38

## HDR  2.54MM  2X19_W
designator P*
仓库名称: 五金仓; 加工方式: 插件; 助记码: *; 单位: *; 备注: *; 物料代码: *; 物料名称: *; 规格型号: *
footprint HDR-19X2_W (双排弯脚排针，19x2脚)
pins: 1, 2, 3, 4, 5, 6, 7, 8, 9, 10, 11, 12, 13, 14, 15, 16, 17, 18, 19, 20, 21, 22, 23, 24, 25, 26, 27, 28, 29, 30, 31, 32, 33, 34, 35, 36, 37, 38

## HDR  2.54MM  2X20
designator P*
仓库名称: 五金仓; 加工方式: 插件; 物料名称: *; 规格型号: *; 助记码: *; 单位: *; 备注: *; 物料代码: *
footprint HDR-20X2 (双排排针，20x2脚)
pins: 1, 2, 3, 4, 5, 6, 7, 8, 9, 10, 11, 12, 13, 14, 15, 16, 17, 18, 19, 20, 21, 22, 23, 24, 25, 26, 27, 28, 29, 30, 31, 32, 33, 34, 35, 36, 37, 38, 39, 40

## HDR  2.54MM  2X20_W
designator P*
仓库名称: 五金仓; 加工方式: 插件; 助记码: *; 单位: *; 备注: *; 物料代码: *; 物料名称: *; 规格型号: *
footprint HDR-20X2_W (双排弯脚排针，20x2脚)
pins: 1, 2, 3, 4, 5, 6, 7, 8, 9, 10, 11, 12, 13, 14, 15, 16, 17, 18, 19, 20, 21, 22, 23, 24, 25, 26, 27, 28, 29, 30, 31, 32, 33, 34, 35, 36, 37, 38, 39, 40

## HDR SMD 2.54MM 2x2
designator P?, comment HDR  2X2 2.54
HDR SMD 2.54MM 2x2; 仓库名称: 五金仓; 单位: 只; 加工方式: 贴片; 助记码: *; 备注: *; 物料代码: *; 物料名称: *; 规格型号: *
footprint HDR2.54 2x2-M-SMD (脚距：2.54mm，贴片双排母)
pins: 1, 2, 3, 4

## HDR SMD 2.54MM 2x3
designator P?, comment HDR  2X3 2.54
HDR SMD 2.54MM 2x3; 仓库名称: 五金仓; 单位: 只; 加工方式: 贴片; 助记码: *; 备注: *; 物料代码: *; 物料名称: *; 规格型号: *
footprint HDR2.54 2x3-M-SMD (脚距：2.54mm，贴片双排母)
pins: 1, 2, 3, 4, 5, 6

## HDR SMD 2.54MM 2x4
designator P?, comment HDR  2X4 2.54
HDR SMD 2.54MM 2x4; 仓库名称: 五金仓; 单位: 只; 加工方式: 贴片; 助记码: *; 备注: *; 物料代码: *; 物料名称: *; 规格型号: *
footprint HDR2.54 2x4-M-SMD (脚距：2.54mm，贴片双排母)
pins: 1, 2, 3, 4, 5, 6, 7, 8

## HDR SMD 2.54MM 2x5
designator P?, comment HDR  2X5 2.54
HDR SMD 2.54MM 2x5; 仓库名称: 五金仓; 单位: 只; 加工方式: 贴片; 助记码: *; 备注: *; 物料代码: *; 物料名称: *; 规格型号: *
footprint HDR2.54 2x5-M-SMD (脚距：2.54mm，贴片双排母)
pins: 1, 2, 3, 4, 5, 6, 7, 8, 9, 10

## HDR SMD 2.54MM 2x6
designator P?, comment HDR  2X6 2.54
HDR SMD 2.54MM 2x6; 仓库名称: 五金仓; 单位: 只; 加工方式: 贴片; 助记码: *; 备注: *; 物料代码: *; 物料名称: *; 规格型号: *
footprint HDR2.54 2x6-M-SMD (脚距：2.54mm，贴片双排母)
pins: 1, 2, 3, 4, 5, 6, 7, 8, 9, 10, 11, 12

## HDR SMD 2.54MM 2x7
designator P?, comment HDR  2X7 2.54
HDR SMD 2.54MM 2x7; 仓库名称: 五金仓; 单位: 只; 加工方式: 贴片; 助记码: *; 备注: *; 物料代码: *; 物料名称: *; 规格型号: *
footprint HDR2.54 2x7-M-SMD (脚距：2.54mm，贴片双排母)
pins: 1, 2, 3, 4, 5, 6, 7, 8, 9, 10, 11, 12, 13, 14

## HDR SMD 2.54MM 2x8
designator P?, comment HDR  2X8 2.54
HDR SMD 2.54MM 2x8; 仓库名称: 五金仓; 单位: 只; 加工方式: 贴片; 助记码: *; 备注: *; 物料代码: *; 物料名称: *; 规格型号: *
footprint HDR2.54 2x8-M-SMD (脚距：2.54mm，贴片双排母)
pins: 1, 2, 3, 4, 5, 6, 7, 8, 9, 10, 11, 12, 13, 14, 15, 16

## HDR SMD 2.54MM 2x9
designator P?, comment HDR  2X9 2.54
HDR SMD 2.54MM 2x9; 仓库名称: 五金仓; 单位: 只; 加工方式: 贴片; 助记码: *; 备注: *; 物料代码: *; 物料名称: *; 规格型号: *
footprint HDR2.54 2x9-M-SMD (脚距：2.54mm，贴片双排母)
pins: 1, 2, 3, 4, 5, 6, 7, 8, 9, 10, 11, 12, 13, 14, 15, 16, 17, 18

## HDR SMD 2.54MM 2x10
designator P?, comment HDR  2X10 2.54
HDR SMD 2.54MM 2x10; 仓库名称: 五金仓; 单位: 只; 加工方式: 贴片; 助记码: *; 备注: *; 物料代码: *; 物料名称: *; 规格型号: *
footprint HDR2.54 2x10-M-SMD (脚距：2.54mm，贴片双排母)
pins: 1, 2, 3, 4, 5, 6, 7, 8, 9, 10, 11, 12, 13, 14, 15, 16, 17, 18, 19, 20

## HDR SMD 2.54MM 2x11
designator P?, comment HDR  2X11 2.54
HDR SMD 2.54MM 2x11; 仓库名称: 五金仓; 单位: 只; 加工方式: 贴片; 助记码: *; 备注: *; 物料代码: *; 物料名称: *; 规格型号: *
footprint HDR2.54 2x11-M-SMD (脚距：2.54mm，贴片双排母)
pins: 1, 2, 3, 4, 5, 6, 7, 8, 9, 10, 11, 12, 13, 14, 15, 16, 17, 18, 19, 20, 21, 22

## HDR SMD 2.54MM 2x12
designator P?, comment HDR  2X12 2.54
HDR SMD 2.54MM 2x12; 仓库名称: 五金仓; 单位: 只; 加工方式: 贴片; 助记码: *; 备注: *; 物料代码: *; 物料名称: *; 规格型号: *
footprint HDR2.54 2x12-M-SMD (脚距：2.54mm，贴片双排母)
pins: 1, 2, 3, 4, 5, 6, 7, 8, 9, 10, 11, 12, 13, 14, 15, 16, 17, 18, 19, 20, 21, 22, 23, 24

## HDR SMD 2.54MM 2x13
designator P?, comment HDR  2X13 2.54
HDR SMD 2.54MM 2x13; 仓库名称: 五金仓; 单位: 只; 加工方式: 贴片; 助记码: *; 备注: *; 物料代码: *; 物料名称: *; 规格型号: *
footprint HDR2.54 2x13-M-SMD (脚距：2.54mm，贴片双排母)
pins: 1, 2, 3, 4, 5, 6, 7, 8, 9, 10, 11, 12, 13, 14, 15, 16, 17, 18, 19, 20, 21, 22, 23, 24, 25, 26

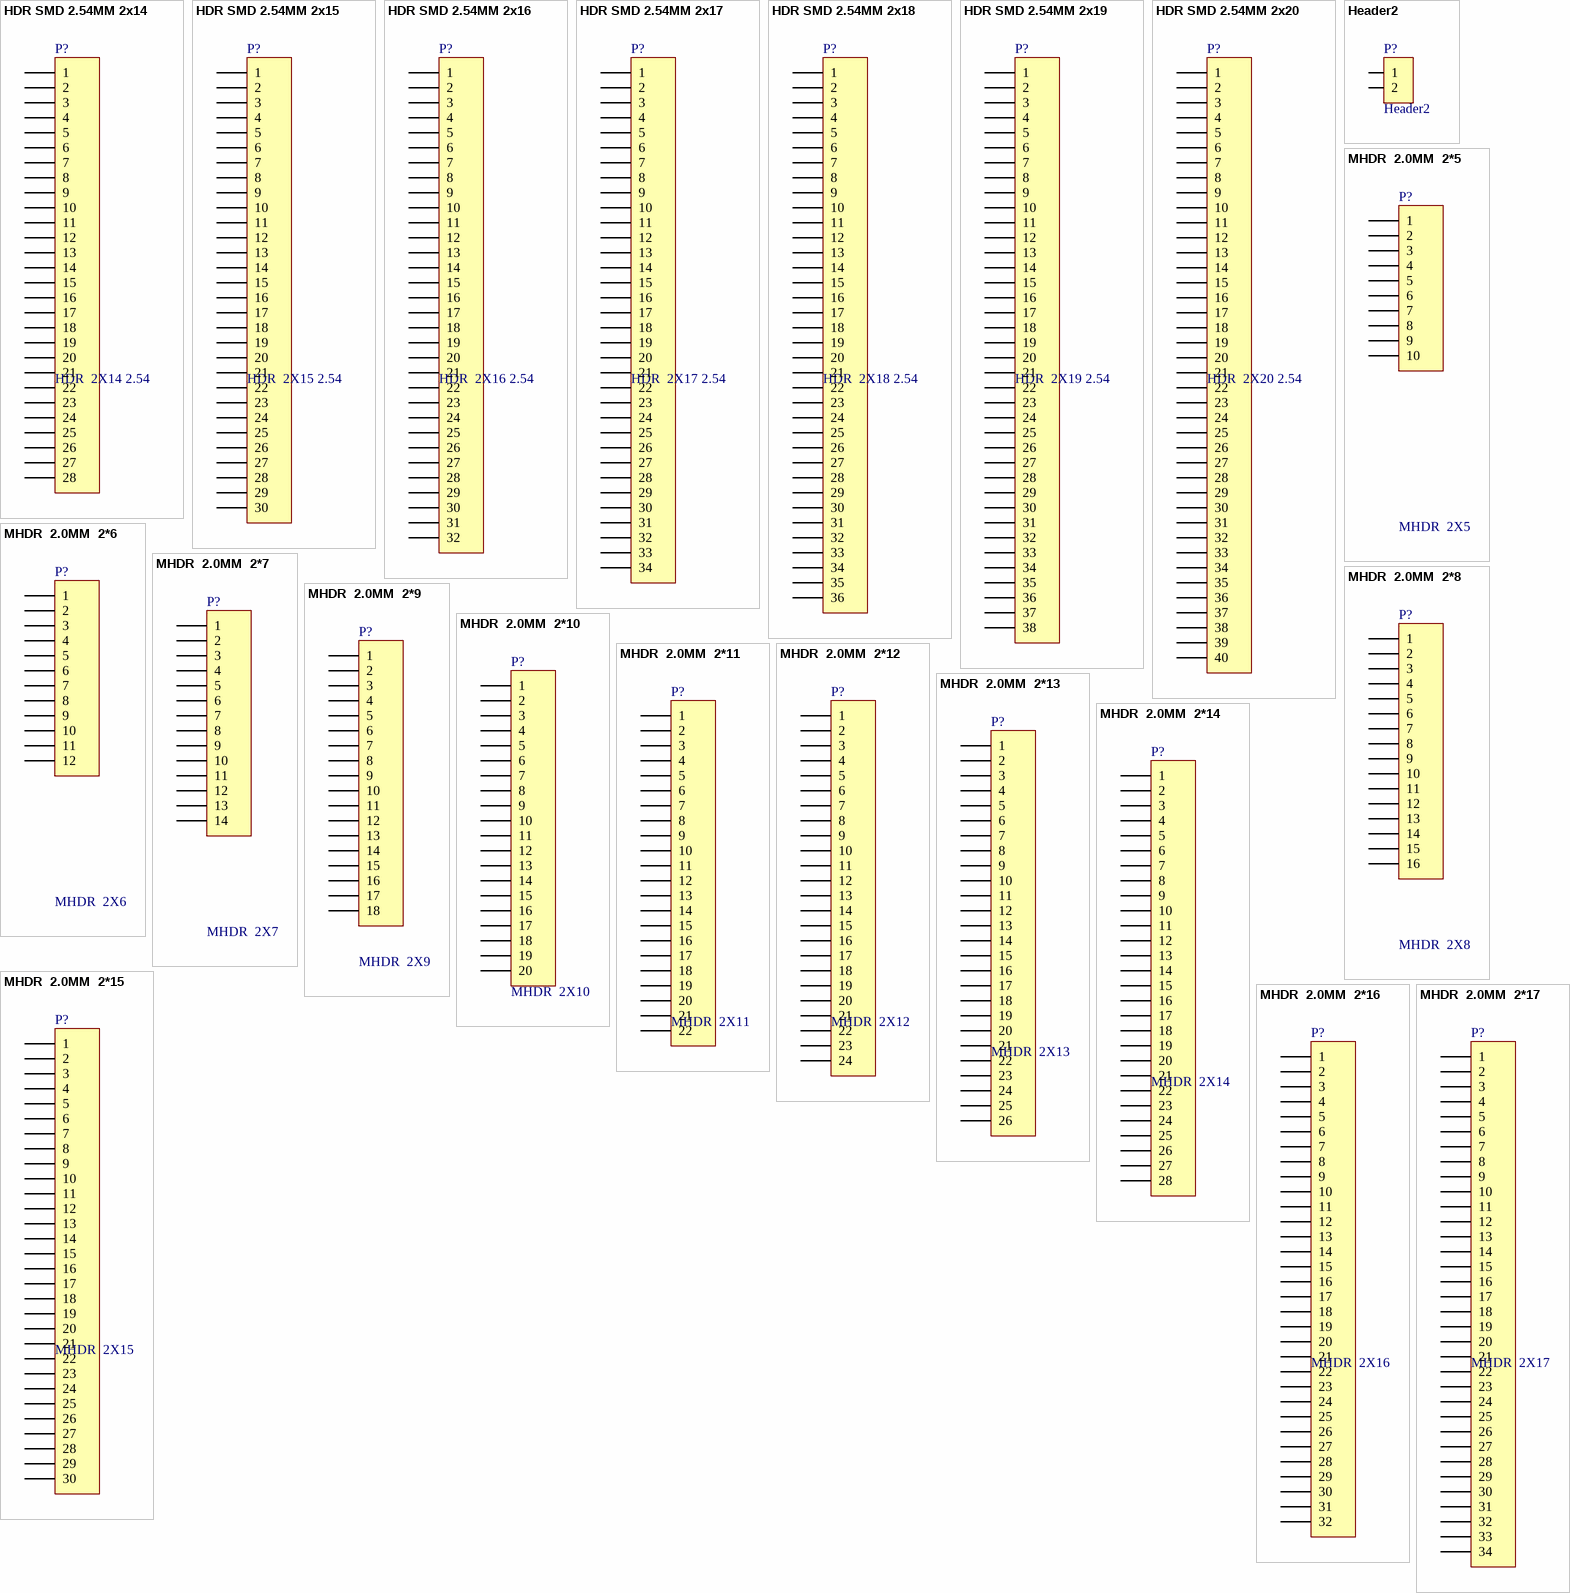
[diagram p9: symbols HDR SMD 2.54MM 2x14 to MHDR  2.0MM  2*17]

## HDR SMD 2.54MM 2x14
designator P?, comment HDR  2X14 2.54
HDR SMD 2.54MM 2x14; 仓库名称: 五金仓; 单位: 只; 加工方式: 贴片; 助记码: *; 备注: *; 物料代码: *; 物料名称: *; 规格型号: *
footprint HDR2.54 2x14-M-SMD (脚距：2.54mm，贴片双排母)
pins: 1, 2, 3, 4, 5, 6, 7, 8, 9, 10, 11, 12, 13, 14, 15, 16, 17, 18, 19, 20, 21, 22, 23, 24, 25, 26, 27, 28

## HDR SMD 2.54MM 2x15
designator P?, comment HDR  2X15 2.54
HDR SMD 2.54MM 2x15; 仓库名称: 五金仓; 单位: 只; 加工方式: 贴片; 助记码: *; 备注: *; 物料代码: *; 物料名称: *; 规格型号: *
footprint HDR2.54 2x15-M-SMD (脚距：2.54mm，贴片双排母)
pins: 1, 2, 3, 4, 5, 6, 7, 8, 9, 10, 11, 12, 13, 14, 15, 16, 17, 18, 19, 20, 21, 22, 23, 24, 25, 26, 27, 28, 29, 30

## HDR SMD 2.54MM 2x16
designator P?, comment HDR  2X16 2.54
HDR SMD 2.54MM 2x16; 仓库名称: 五金仓; 单位: 只; 加工方式: 贴片; 助记码: *; 备注: *; 物料代码: *; 物料名称: *; 规格型号: *
footprint HDR2.54 2x16-M-SMD (脚距：2.54mm，贴片双排母)
pins: 1, 2, 3, 4, 5, 6, 7, 8, 9, 10, 11, 12, 13, 14, 15, 16, 17, 18, 19, 20, 21, 22, 23, 24, 25, 26, 27, 28, 29, 30, 31, 32

## HDR SMD 2.54MM 2x17
designator P?, comment HDR  2X17 2.54
HDR SMD 2.54MM 2x17; 仓库名称: 五金仓; 单位: 只; 加工方式: 贴片; 助记码: *; 备注: *; 物料代码: *; 物料名称: *; 规格型号: *
footprint HDR2.54 2x17-M-SMD (脚距：2.54mm，贴片双排母)
pins: 1, 2, 3, 4, 5, 6, 7, 8, 9, 10, 11, 12, 13, 14, 15, 16, 17, 18, 19, 20, 21, 22, 23, 24, 25, 26, 27, 28, 29, 30, 31, 32, 33, 34